# Altium schematic symbol library ARCOM_Chips.SchLib: 90 symbols (part 2 of 2)
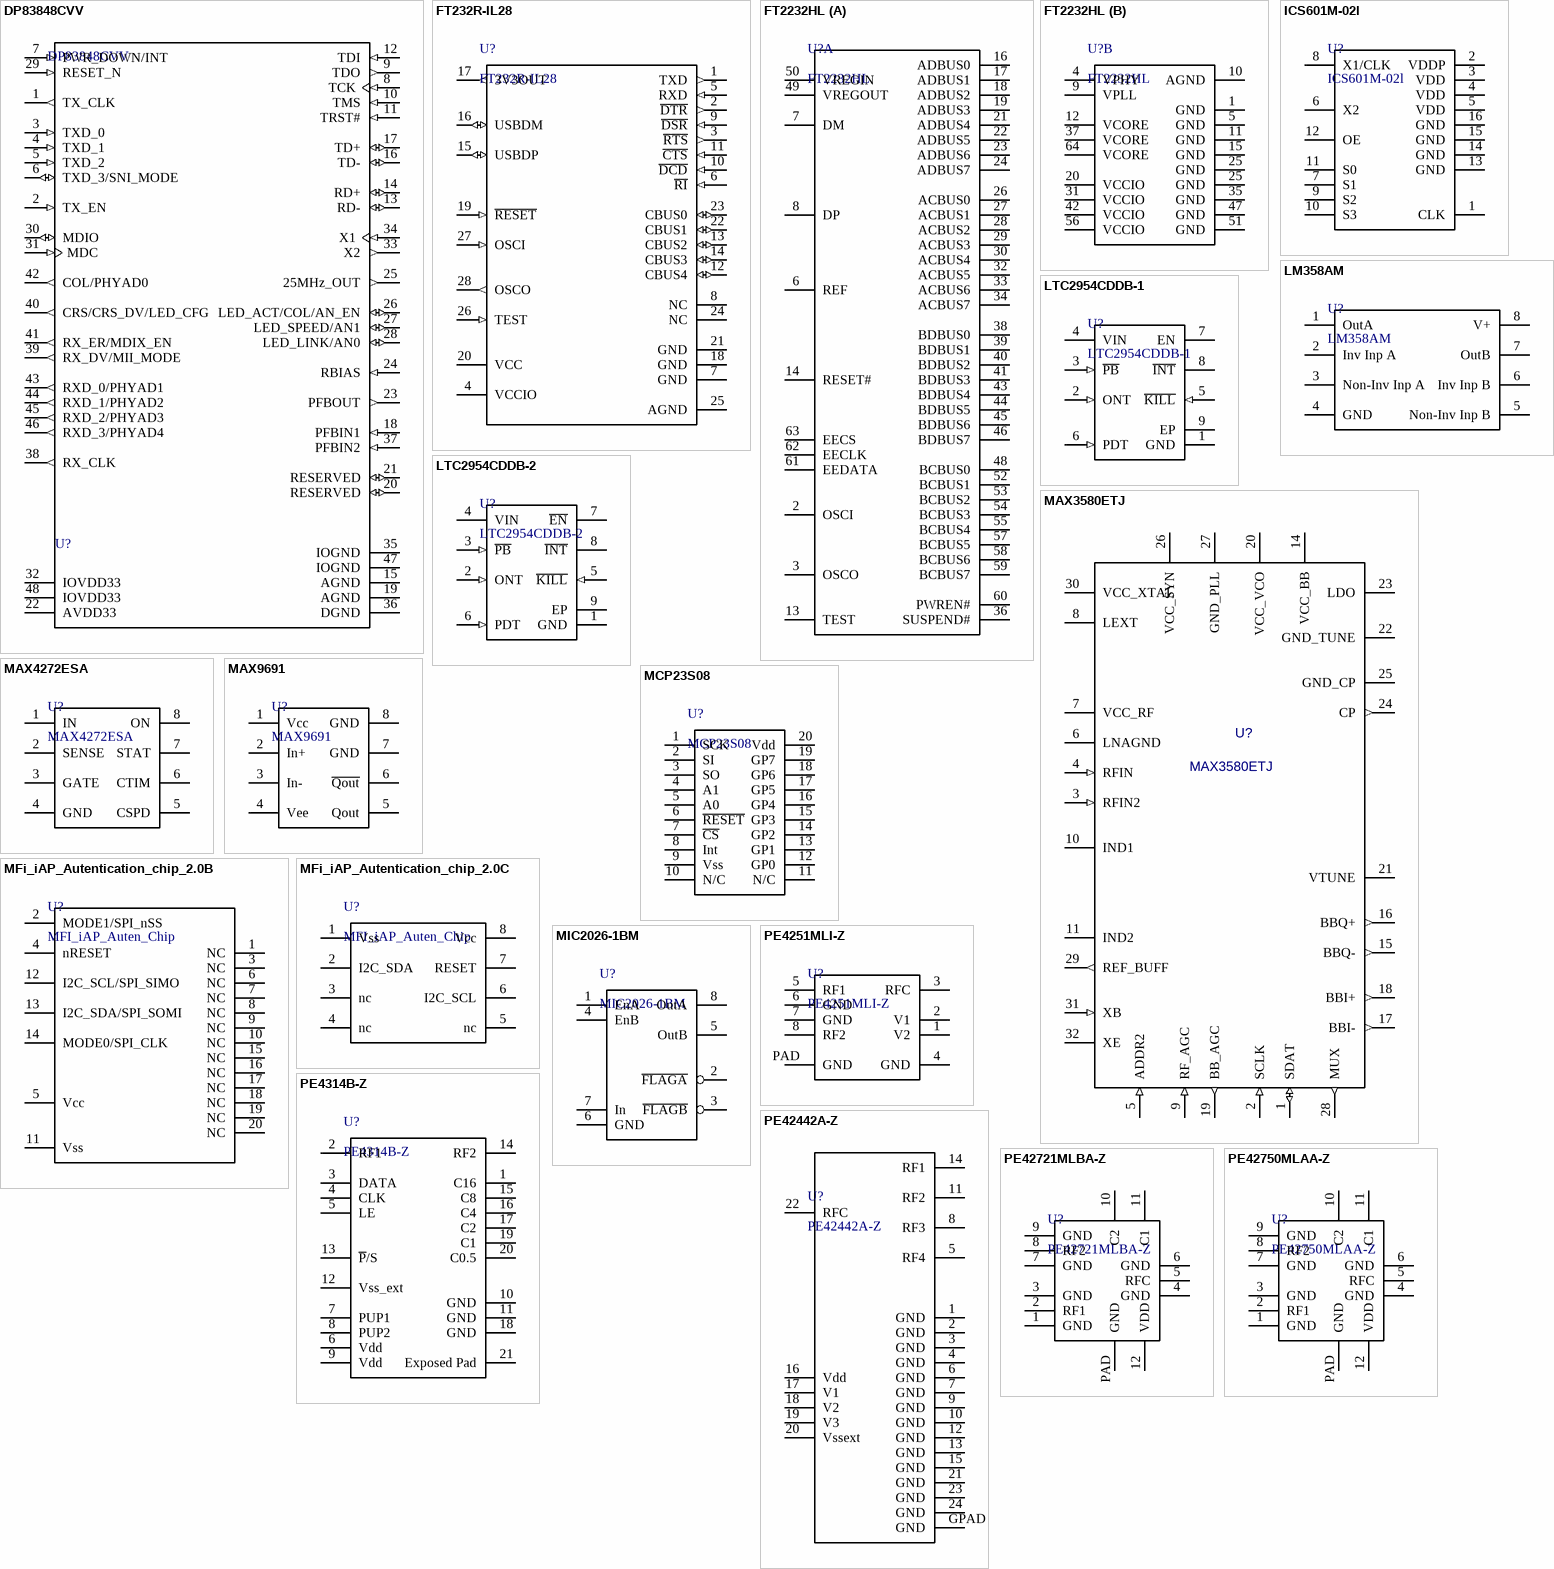
[diagram p9: symbols DP83848CVV to PE42750MLAA-Z]

## MAX3580ETJ
designator U?
Direct-conversion TV Tuner; Manufacturer: Maxim Integrated Products; Manufacturer P/N: MAX3580ETJ; ComponentLink1Description: Manufacturer; ComponentLink1URL: https://www.maximintegrated.com/en.html; ComponentLink2Description: Datasheet; ComponentLink2URL: https://datasheets.maximintegrated.com/en/ds/MAX3580.pdf; Part: MAX3580ETJ; Family: Chip obsolete
pins: 1 SDAT (io), 2 SCLK (in), 3 RFIN2 (in), 4 RFIN (in), 5 ADDR2 (in), 6 LNAGND (power), 7 VCC_RF (power), 8 LEXT (power), 9 RF_AGC (in), 10 IND1, 11 IND2, 12 hidden, 13 hidden, 14 VCC_BB (power), 15 BBQ- (out), 16 BBQ+ (out), 17 BBI- (out), 18 BBI+ (out), 19 BB_AGC (out), 20 VCC_VCO (power), 21 VTUNE (power), 22 GND_TUNE (power), 23 LDO, 24 CP (out), 25 GND_CP (power), 26 VCC_SYN (power), 27 GND_PLL (power), 28 MUX (out), 29 REF_BUFF (out), 30 VCC_XTAL (power), 31 XB (in), 32 XE, 33 GND (power) hidden to GND

## MAX4272ESA
designator U?
Current-Limiting Controllers; Manufacturer: Maxim integrated; ComponentLink2URL: http://www.mouser.com/ds/2/256/MAX4271-MAX4273-103837.pdf; ComponentLink2Description: Datasheet; ComponentLink1Description: Manufacturer; ComponentLink1URL: http://www.maximintegrated.com/en.html; Part: MAX4272ESA; Manufacturer P/N: MAX4272ESA; Family: Chip
footprint SOIC_8_1.27_L (SOIC, 8-Leads, Body 4.89x3.9mm, Pitch 1.27mm, IPC High Density)
footprint SOIC_8_1.27_M (SOIC, 8-Leads, Body 4.89x3.9mm, Pitch 1.27mm, IPC Low Density)
footprint SOIC_8_1.27_N (SOIC, 8-Leads, Body 4.89x3.9mm, Pitch 1.27mm, IPC Medium Density)
pins: 1 IN, 2 SENSE, 3 GATE, 4 GND, 5 CSPD, 6 CTIM, 7 STAT, 8 ON

## MAX9691
designator U?
Manufacturer: Maxim; ComponentLink1Description: Manufacturer; ComponentLink1URL: *; ComponentLink2Description: Datasheet; ComponentLink2URL: *; Manufacturer P/N: *; Part: MAX9691; Family: Chip
pins: 1 Vcc, 2 In+, 3 In-, 4 Vee, 5 Qout, 6 ~{Qout}, 7 GND, 8 GND

## MCP23S08
designator U?
pins: 1 SCK, 2 SI, 3 SO, 4 A1, 5 A0, 6 ~{RESET}, 7 ~{CS}, 8 Int, 9 Vss, 10 N/C, 11 N/C, 12 GP0, 13 GP1, 14 GP2, 15 GP3, 16 GP4, 17 GP5, 18 GP6, 19 GP7, 20 Vdd

## MFi_iAP_Autentication_chip_2.0B
designator U?, comment MFI_iAP_Auten_Chip
QFN-20 iAP Autentication Chip 2.0B; Family: Chip
footprint QFN20(4x4)_L (QFN, 20-Leads, Body 4x4mm, Pitch 0.5mm, Thermal Pad 2.7x2.7mm, IPC High Density)
footprint QFN20(4x4)_N (QFN, 20-Leads, Body 4x4mm, Pitch 0.5mm, Thermal Pad 2.7x2.7mm, IPC Medium Density)
footprint QFN20(4x4)_N (QFN, 20-Leads, Body 4x4mm, Pitch 0.5mm, Thermal Pad 2.7x2.7mm, IPC Medium Density)
pins: 1 NC, 2 MODE1/SPI_nSS, 3 NC, 4 nRESET, 5 Vcc, 6 NC, 7 NC, 8 NC, 9 NC, 10 NC, 11 Vss, 12 I2C_SCL/SPI_SIMO, 13 I2C_SDA/SPI_SOMI, 14 MODE0/SPI_CLK, 15 NC, 16 NC, 17 NC, 18 NC, 19 NC, 20 NC

## MFi_iAP_Autentication_chip_2.0C
designator U?, comment MFI_iAP_Auten_Chip
iAP Autentication Chip 2.0C; Family: Chip
footprint PG-USON-8-1
pins: 1 Vss, 2 I2C_SDA, 3 nc, 4 nc, 5 nc, 6 I2C_SCL, 7 RESET, 8 Vcc

## MIC2026-1BM
designator U?
Dual-Channel Power Distribution Switch; Manufacturer: Micrel; ComponentLink1Description: Manufacturer; ComponentLink1URL: *; ComponentLink2Description: Datasheet; ComponentLink2URL: http://ww1.microchip.com/downloads/en/DeviceDoc/mic2026.pdf; family: chip; Manufacturer P/N: MIC2026-1BM; part: MIC2026-1BM
footprint SOIC_8_1.27_L (SOIC, 8-Leads, Body 4.89x3.9mm, Pitch 1.27mm, IPC High Density)
pins: 1 EnA, 2 ~{FLAGA}, 3 ~{FLAGB}, 4 EnB, 5 OutB, 6 GND, 7 In, 8 OutA

## PE4251MLI-Z
designator U?
SPDT RF Switch; Manufacturer: PESemi; ComponentLink1Description: *; ComponentLink1URL: *; ComponentLink2Description: *; ComponentLink2URL: *; Family: *; Manufacturer P/N: PE4251MLI-Z; Part: *
footprint PE4251MLI-Z
pins: 1 V2, 2 V1, 3 RFC, 4 GND, 5 RF1, 6 GND, 7 GND, 8 RF2, PAD GND

## PE4314B-Z
designator U?
UltraCMOS RF Digital Step Attenuator, 1MHz-2.5GHz; Manufacturer: Peregrine Semiconductor; ComponentLink1Description: Manufacturer; ComponentLink1URL: https://psemi.com; ComponentLink2Description: Datasheet; ComponentLink2URL: https://psemi.com/pdf/datasheets/pe4314ds.pdf; Family: Chip; Manufacturer P/N: PE4314B-Z; Part: PE4314B-Z
footprint PE4314 (QFN, 20-Leads, Body 4,00x4,00mm, Pitch 0,50mm, Thermal Pad 2,20x2,20mm, IPC Medium Density)
pins: 1 C16, 2 RF1, 3 DATA, 4 CLK, 5 LE, 6 Vdd, 7 PUP1, 8 PUP2, 9 Vdd, 10 GND, 11 GND, 12 Vss_ext, 13 ~{P}/S, 14 RF2, 15 C8, 16 C4, 17 C2, 18 GND, 19 C1, 20 C0.5, 21 Exposed Pad

## PE42442A-Z
designator U?
UltraCMOS SP4T RF Switch 30MHz-6GHz; Manufacturer: Peregrine Semiconductor; ComponentLink1Description: Manufacturer; ComponentLink1URL: https://www.psemi.com; ComponentLink2Description: Datasheet; ComponentLink2URL: https://www.psemi.com/pdf/datasheets/pe42442ds.pdf; Manufacturer P/N: PE42442A-Z; Family: Chips; Part: PE42442A-Z
footprint QFN24(4x4mm)0.5pitch
pins: 1 GND, 2 GND, 3 GND, 4 GND, 5 RF4, 6 GND, 7 GND, 8 RF3, 9 GND, 10 GND, 11 RF2, 12 GND, 13 GND, 14 RF1, 15 GND, 16 Vdd, 17 V1, 18 V2, 19 V3, 20 Vssext, 21 GND, 22 RFC, 23 GND, 24 GND, GPAD GND

## PE42721MLBA-Z
designator U?
SPDT RF Switch; ComponentLink1Description: *; ComponentLink1URL: *; ComponentLink2Description: *; ComponentLink2URL: *; Family: *; Manufacturer: *; Manufacturer P/N: PE42721MLBA-Z; Part: *
footprint PE42721
pins: 1 GND, 2 RF1, 3 GND, 4 GND, 5 RFC, 6 GND, 7 GND, 8 RF2, 9 GND, 10 C2, 11 C1, 12 VDD, PAD GND

## PE42750MLAA-Z
designator U?
SPDT RF Switch; ComponentLink1Description: *; ComponentLink1URL: *; ComponentLink2Description: *; ComponentLink2URL: *; Family: *; Manufacturer: *; Manufacturer P/N: PE42750MLAA-Z; Part: *
footprint PE42721
pins: 1 GND, 2 RF1, 3 GND, 4 GND, 5 RFC, 6 GND, 7 GND, 8 RF2, 9 GND, 10 C2, 11 C1, 12 VDD, PAD GND

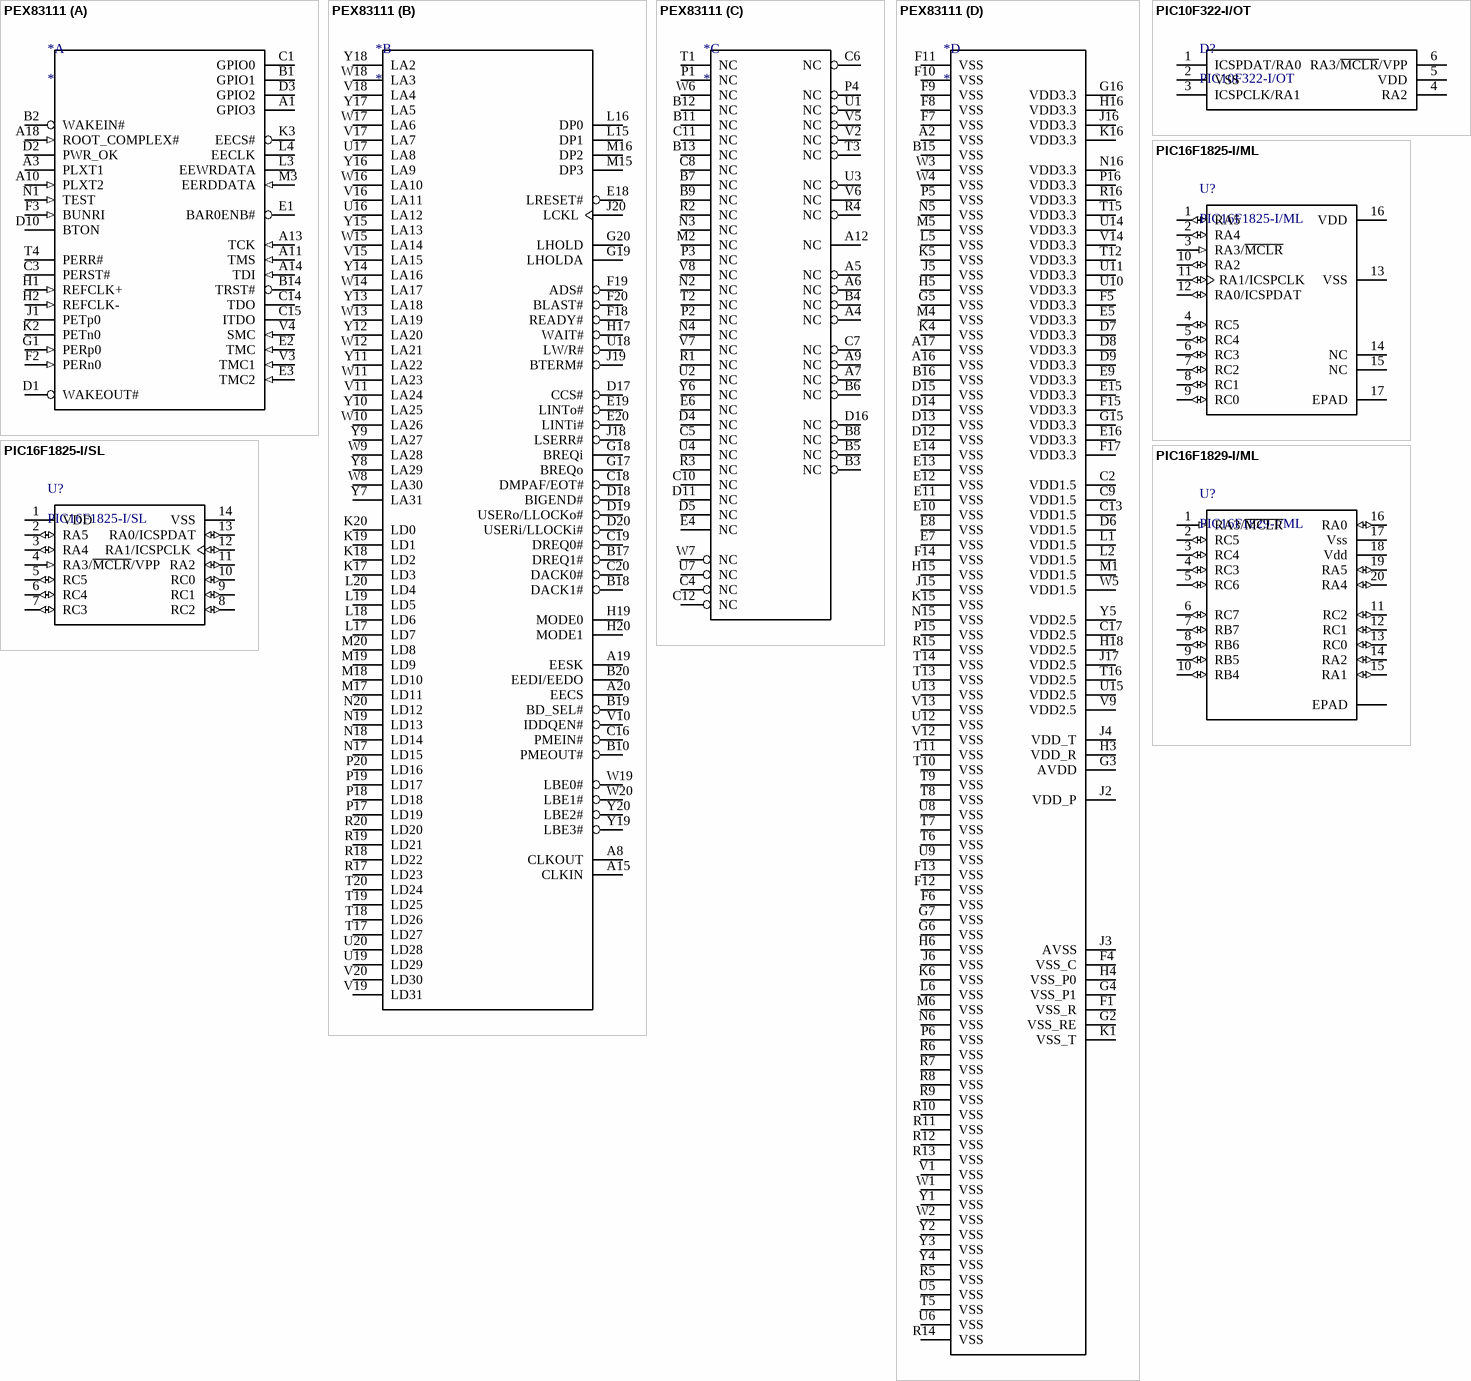
[diagram p4: symbols PEX83111 to PIC16F1829-I/ML]

## PEX83111
designator *
footprint PBGA-337
part A pins: A1 GPIO3, A3 PLXT1, A10 PLXT2 (in), A11 TMS (in), A13 TCK (in), A14 TDI (in), A18 ROOT_COMPLEX# (in), B1 GPIO1, B2 WAKEIN#, B14 TRST#, C1 GPIO0, C3 PERST#, C14 TDO, C15 ITDO, D1 WAKEOUT#, D2 PWR_OK, D3 GPIO2, D10 BTON, E1 BAR0ENB#, E2 TMC (in), E3 TMC2 (in), F2 PERn0 (in), F3 BUNRI (in), G1 PERp0 (in), H1 REFCLK+ (in), H2 REFCLK- (in), J1 PETp0, K2 PETn0, K3 EECS#, L3 EEWRDATA, L4 EECLK, M3 EERDDATA (in), N1 TEST (in), T4 PERR#, V3 TMC1 (in), V4 SMC (in)
part B pins: A8 CLKOUT, A15 CLKIN, A19 EESK, A20 EECS, B10 PMEOUT#, B17 DREQ1#, B18 DACK1#, B19 BD_SEL#, B20 EEDI/EEDO, C16 PMEIN#, C18 DMPAF/EOT#, C19 DREQ0#, C20 DACK0#, D17 CCS#, D18 BIGEND#, D19 USERo/LLOCKo#, D20 USERi/LLOCKi#, E18 LRESET#, E19 LINTo#, E20 LINTi#, F18 READY#, F19 ADS#, F20 BLAST#, G17 BREQo, G18 BREQi, G19 LHOLDA, G20 LHOLD, H17 WAIT#, H19 MODE0, H20 MODE1, J18 LSERR#, J19 BTERM#, J20 LCKL, K17 LD3, K18 LD2, K19 LD1, K20 LD0, L15 DP1, L16 DP0, L17 LD7, L18 LD6, L19 LD5, L20 LD4, M15 DP3, M16 DP2, M17 LD11, M18 LD10, M19 LD9, M20 LD8, N17 LD15, N18 LD14, N19 LD13, N20 LD12, P17 LD19, P18 LD18, P19 LD17, P20 LD16, R17 LD23, R18 LD22, R19 LD21, R20 LD20, T17 LD27, T18 LD26, T19 LD25, T20 LD24, U16 LA12, U17 LA8, U18 LW/R#, U19 LD29, U20 LD28, V10 IDDQEN#, V11 LA24, V15 LA15, V16 LA11, V17 LA7, V18 LA4, V19 LD31, V20 LD30, W8 LA30, W9 LA28, W10 LA26, W11 LA23, W12 LA21, W13 LA19, W14 LA17, W15 LA14, W16 LA10, W17 LA6, W18 LA3, W19 LBE0#, W20 LBE1#, Y7 LA31, Y8 LA29, Y9 LA27, Y10 LA25, Y11 LA22, Y12 LA20, Y13 LA18, Y14 LA16, Y15 LA13, Y16 LA9, Y17 LA5, Y18 LA2, Y19 LBE3#, Y20 LBE2#
part C pins: A4 NC, A5 NC, A6 NC, A7 NC, A9 NC, A12 NC, B3 NC, B4 NC, B5 NC, B6 NC, B7 NC, B8 NC, B9 NC, B11 NC, B12 NC, B13 NC, C4 NC, C5 NC, C6 NC, C7 NC, C8 NC, C10 NC, C11 NC, C12 NC, D4 NC, D5 NC, D11 NC, D16 NC, E4 NC, E6 NC, M2 NC, N2 NC, N3 NC, N4 NC, P1 NC, P2 NC, P3 NC, P4 NC, R1 NC, R2 NC, R3 NC, R4 NC, T1 NC, T2 NC, T3 NC, U1 NC, U2 NC, U3 NC, U4 NC, U7 NC, V2 NC, V5 NC, V6 NC, V7 NC, V8 NC, W6 NC, W7 NC, Y6 NC
part D pins: A2 VSS, A16 VSS, A17 VSS, B15 VSS, B16 VSS, C2 VDD1.5, C9 VDD1.5, C13 VDD1.5, C17 VDD2.5, D6 VDD1.5, D7 VDD3.3, D8 VDD3.3, D9 VDD3.3, D12 VSS, D13 VSS, D14 VSS, D15 VSS, E5 VDD3.3, E7 VSS, E8 VSS, E9 VDD3.3, E10 VSS, E11 VSS, E12 VSS, E13 VSS, E14 VSS, E15 VDD3.3, E16 VDD3.3, F1 VSS_R, F4 VSS_C, F5 VDD3.3, F6 VSS, F7 VSS, F8 VSS, F9 VSS, F10 VSS, F11 VSS, F12 VSS, F13 VSS, F14 VSS, F15 VDD3.3, F17 VDD3.3, G2 VSS_RE, G3 AVDD, G4 VSS_P1, G5 VSS, G6 VSS, G7 VSS, G15 VDD3.3, G16 VDD3.3, H3 VDD_R, H4 VSS_P0, H5 VSS, H6 VSS, H15 VSS, H16 VDD3.3, H18 VDD2.5, J2 VDD_P, J3 AVSS, J4 VDD_T, J5 VSS, J6 VSS, J15 VSS, J16 VDD3.3, J17 VDD2.5, K1 VSS_T, K4 VSS, K5 VSS, K6 VSS, K15 VSS, K16 VDD3.3, L1 VDD1.5, L2 VDD1.5, L5 VSS, L6 VSS, M1 VDD1.5, M4 VSS, M5 VSS, M6 VSS, N5 VSS, N6 VSS, N15 VSS, N16 VDD3.3, P5 VSS, P6 VSS, P15 VSS, P16 VDD3.3, R5 VSS, R6 VSS, R7 VSS, R8 VSS, R9 VSS, R10 VSS, R11 VSS, R12 VSS, R13 VSS, R14 VSS, R15 VSS, R16 VDD3.3, T5 VSS, T6 VSS, T7 VSS, T8 VSS, T9 VSS, T10 VSS, T11 VSS, T12 VDD3.3, T13 VSS, T14 VSS, T15 VDD3.3, T16 VDD2.5, U5 VSS, U6 VSS, U8 VSS, U9 VSS, U10 VDD3.3, U11 VDD3.3, U12 VSS, U13 VSS, U14 VDD3.3, U15 VDD2.5, V1 VSS, V9 VDD2.5, V12 VSS, V13 VSS, V14 VDD3.3, W1 VSS, W2 VSS, W3 VSS, W4 VSS, W5 VDD1.5, Y1 VSS, Y2 VSS, Y3 VSS, Y4 VSS, Y5 VDD2.5

## PIC10F322-I/OT
designator D?
6-pin Flash-Based, 8-bit Microcontroller
footprint SOT-23(PIC)
pins: 1 ICSPDAT/RA0, 2 VSS, 3 ICSPCLK/RA1, 4 RA2, 5 VDD (power) "Positive supply", 6 RA3/~{MCLR}/VPP

## PIC16F1825-I/ML
designator U?
Flash Microcontroller with XLP Technology, 32MHz, 11 I/O, -40 to 85 degC, 14-pin SOIC(SL14), Tube; Manufacturer: Microchip; ComponentLink1Description: Manufacturer; ComponentLink1URL: http://www.microchip.com/; ComponentLink2Description: Datasheet; ComponentLink2URL: http://ww1.microchip.com/downloads/en/DeviceDoc/40001440E.pdf; Manufacturer P/N: PIC16F1825-I/ML; Part: PIC16F1825-I/ML; Family: Chip
footprint ADI-CP-16-10_M (QFN, 16-Leads, Body 4x4mm, Pitch 0.65mm, Thermal Pad 2.35x2.35mm, IPC Low Density)
pins: 1 RA5 (io), 2 RA4 (io), 3 RA3/~{MCLR} (in), 4 RC5 (io), 5 RC4 (io), 6 RC3 (io), 7 RC2 (io), 8 RC1 (io), 9 RC0 (io), 10 RA2 (io), 11 RA1/ICSPCLK (io), 12 RA0/ICSPDAT (io), 13 VSS (power) "Ground reference.", 14 NC (power) "Positive supply", 15 NC (power) "Positive supply", 16 VDD (power) "Positive supply", 17 EPAD (power) "Positive supply"

## PIC16F1825-I/SL
designator U?
Flash Microcontroller with XLP Technology, 32MHz, 11 I/O, -40 to 85 degC, 14-pin SOIC(SL14), Tube; Manufacturer: Microchip; ComponentLink1Description: Manufacturer; ComponentLink1URL: http://www.microchip.com/; ComponentLink2Description: Datasheet; ComponentLink2URL: http://ww1.microchip.com/downloads/en/DeviceDoc/40001440E.pdf; Manufacturer P/N: PIC16F1825-I/SL; Part: PIC16F1825-I/SL; Family: Chip
footprint SOIC_14_1.27_H (SOIC, 14-Leads, Body 8.65x3.9mm, Pitch 1.27mm, IPC High Density)
footprint SOIC_14_1.27_L (SOIC, 14-Leads, Body 8.65x3.9mm, Pitch 1.27mm, IPC Low Density)
footprint SOIC_14_1.27_M (SOIC, 14-Leads, Body 8.65x3.9mm, Pitch 1.27mm, IPC Medium Density)
pins: 1 VDD (power) "Positive supply", 2 RA5 (io), 3 RA4 (io), 4 RA3/~{MCLR}/VPP (in), 5 RC5 (io), 6 RC4 (io), 7 RC3 (io), 8 RC2 (io), 9 RC1 (io), 10 RC0 (io), 11 RA2 (io), 12 RA1/ICSPCLK (io), 13 RA0/ICSPDAT (io), 14 VSS (power) "Ground reference."

## PIC16F1829-I/ML
designator U?
Flash Microcontroller with XLP Technology, 32MHz, 11 I/O, -40 to 85 degC, 14-pin SOIC(SL14), Tube; Manufacturer: Microchip; ComponentLink1Description: Manufacturer; ComponentLink1URL: http://www.microchip.com/; ComponentLink2Description: Datasheet; ComponentLink2URL: http://ww1.microchip.com/downloads/en/DeviceDoc/40001440E.pdf; Manufacturer P/N: PIC16F1829-I/ML; Part: PIC16F1829-I/ML; Family: Chip
footprint QFN20(4x4)_L (QFN, 20-Leads, Body 4x4mm, Pitch 0.5mm, Thermal Pad 2.7x2.7mm, IPC High Density)
pins: 1 RA3/~{MCLR} (in), 2 RC5 (io), 3 RC4 (io), 4 RC3 (io), 5 RC6 (io), 6 RC7 (io), 7 RB7 (io), 8 RB6 (io), 9 RB5 (io), 10 RB4 (io), 11 RC2 (io), 12 RC1 (io), 13 RC0 (io) "Ground reference.", 14 RA2 (io) "Positive supply", 15 RA1 (io) "Positive supply", 16 RA0 (io) "Positive supply", 17 Vss (power) "Positive supply", 18 Vdd (power) "Positive supply", 19 RA5 (io) "Positive supply", 20 RA4 (io) "Positive supply", 21 EPAD (power) "Positive supply"

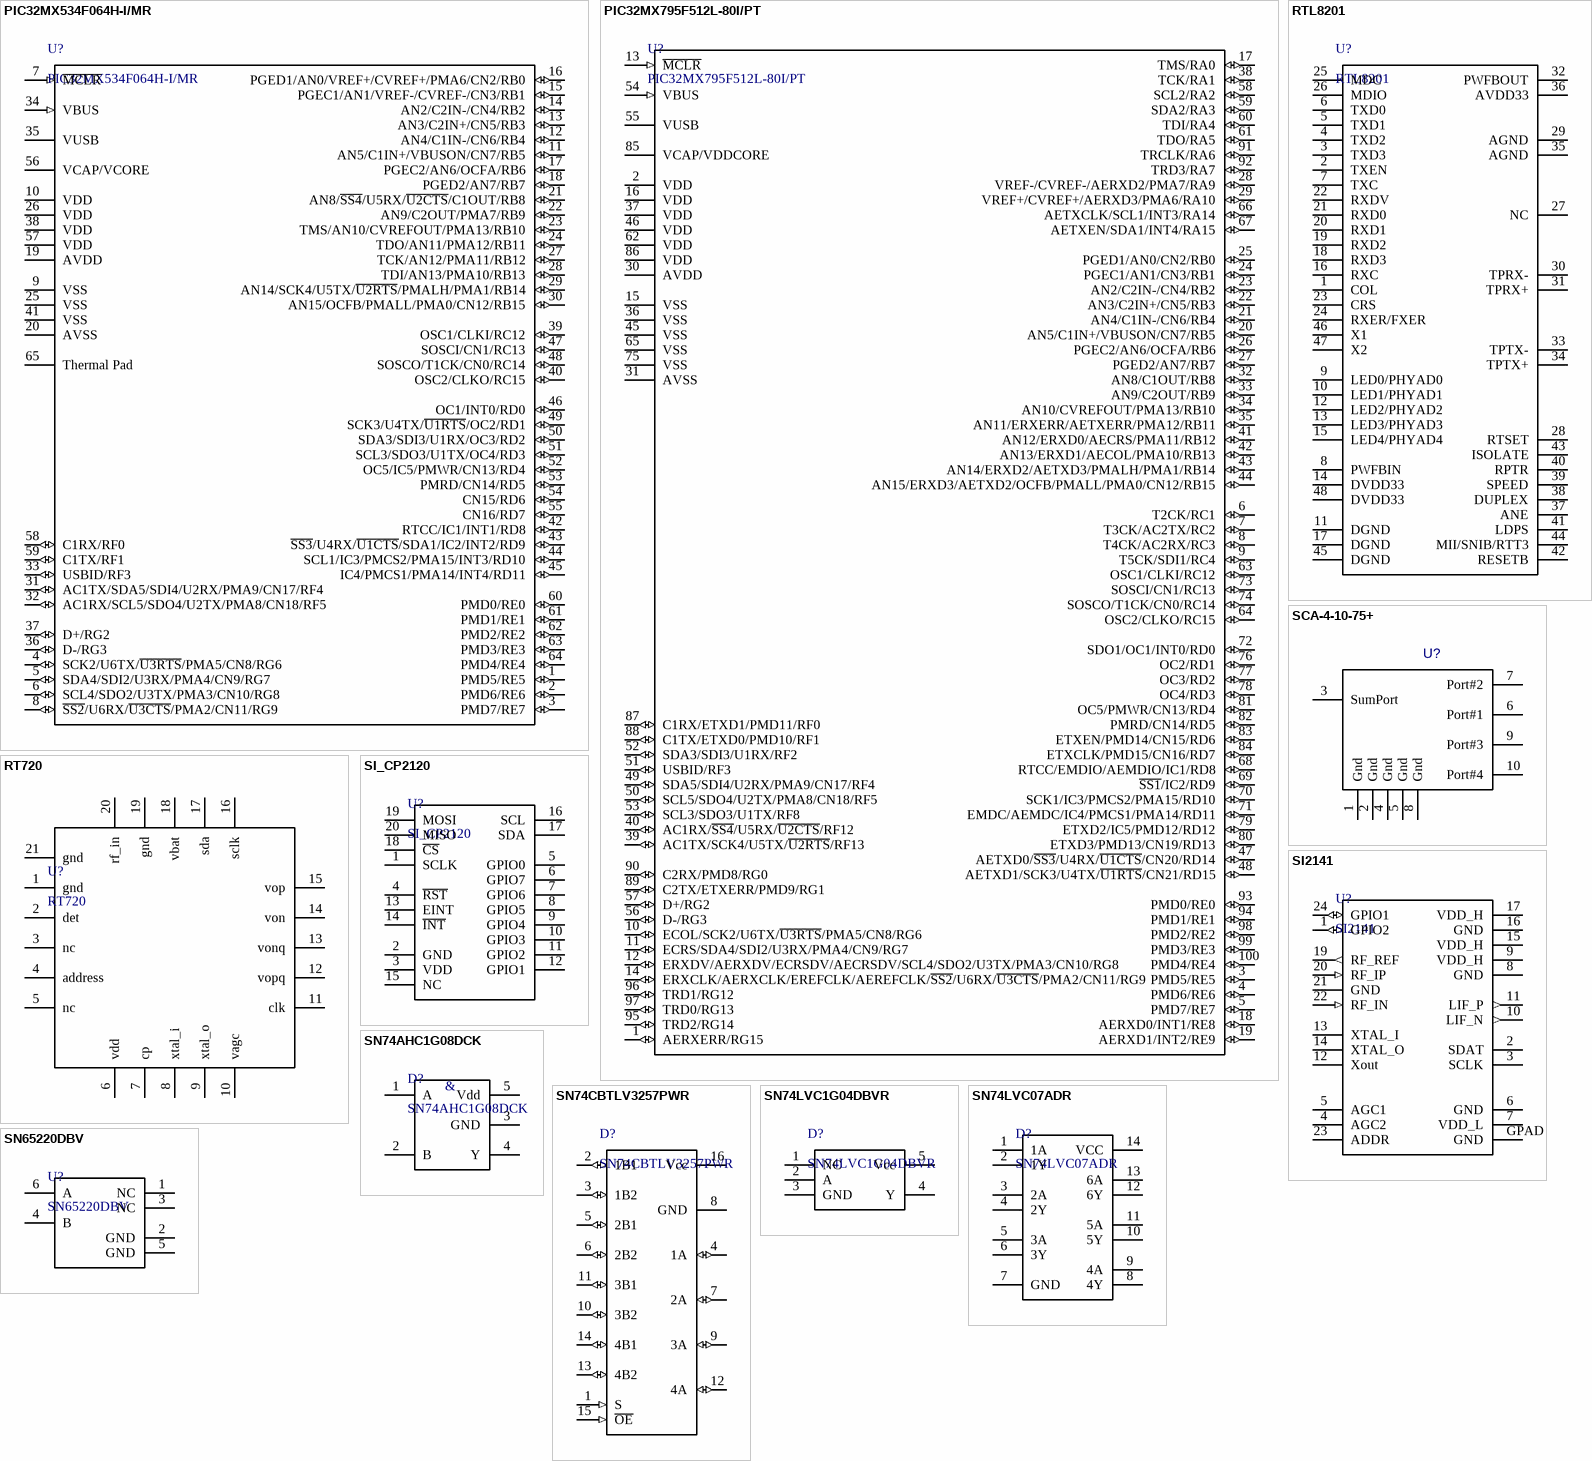
[diagram p5: symbols PIC32MX534F064H-I/MR to SN65220DBV]

## PIC32MX534F064H-I/MR
designator U?
32-bit Microcontrollers (up to 512 KB Flash and 128 KB SRAM)  with Graphics Interface, USB, CAN, and Ethernet; Manufacturer: Microchip; ComponentLink1Description: Manufacturer; ComponentLink1URL: *; ComponentLink2Description: Datasheet; ComponentLink2URL: *; Family: Chip; Manufacturer P/N: PIC32MX534F064H-I/MR; Part: PIC32MX534F064H-I/MR
footprint QFN-MR64_N (QFN, 64-Leads, Body 9x9mm, Pitch 0.5mm, Thermal Pad 7.5x7.5mm, IPC Medium Density)
pins: 1 PMD5/RE5 (io), 2 PMD6/RE6 (io), 3 PMD7/RE7 (io), 4 SCK2/U6TX/~{U3RTS}/PMA5/CN8/RG6 (io), 5 SDA4/SDI2/U3RX/PMA4/CN9/RG7 (io), 6 SCL4/SDO2/U3TX/PMA3/CN10/RG8 (io), 7 ~{MCLR} (in), 8 ~{SS2}/U6RX/~{U3CTS}/PMA2/CN11/RG9 (io), 9 VSS (power), 10 VDD (power), 11 AN5/C1IN+/VBUSON/CN7/RB5 (io), 12 AN4/C1IN-/CN6/RB4 (io), 13 AN3/C2IN+/CN5/RB3 (io), 14 AN2/C2IN-/CN4/RB2 (io), 15 PGEC1/AN1/VREF-/CVREF-/CN3/RB1 (io), 16 PGED1/AN0/VREF+/CVREF+/PMA6/CN2/RB0 (io), 17 PGEC2/AN6/OCFA/RB6 (io), 18 PGED2/AN7/RB7 (io), 19 AVDD (power), 20 AVSS (power), 21 AN8/~{SS4}/U5RX/~{U2CTS}/C1OUT/RB8 (io), 22 AN9/C2OUT/PMA7/RB9 (io), 23 TMS/AN10/CVREFOUT/PMA13/RB10 (io), 24 TDO/AN11/PMA12/RB11 (io), 25 VSS (power), 26 VDD (power), 27 TCK/AN12/PMA11/RB12 (io), 28 TDI/AN13/PMA10/RB13 (io), 29 AN14/SCK4/U5TX/~{U2RTS}/PMALH/PMA1/RB14 (io), 30 AN15/OCFB/PMALL/PMA0/CN12/RB15 (io), 31 AC1TX/SDA5/SDI4/U2RX/PMA9/CN17/RF4 (io), 32 AC1RX/SCL5/SDO4/U2TX/PMA8/CN18/RF5 (io), 33 USBID/RF3 (io), 34 VBUS (in), 35 VUSB (power), 36 D-/RG3 (io), 37 D+/RG2 (io), 38 VDD (power), 39 OSC1/CLKI/RC12 (io), 40 OSC2/CLKO/RC15 (io), 41 VSS (power), 42 RTCC/IC1/INT1/RD8 (io), 43 ~{SS3}/U4RX/~{U1CTS}/SDA1/IC2/INT2/RD9 (io), 44 SCL1/IC3/PMCS2/PMA15/INT3/RD10 (io), 45 IC4/PMCS1/PMA14/INT4/RD11 (io), 46 OC1/INT0/RD0 (io), 47 SOSCI/CN1/RC13 (io), 48 SOSCO/T1CK/CN0/RC14 (io), 49 SCK3/U4TX/~{U1RTS}/OC2/RD1 (io), 50 SDA3/SDI3/U1RX/OC3/RD2 (io), 51 SCL3/SDO3/U1TX/OC4/RD3 (io), 52 OC5/IC5/PMWR/CN13/RD4 (io), 53 PMRD/CN14/RD5 (io), 54 CN15/RD6 (io), 55 CN16/RD7 (io), 56 VCAP/VCORE (power), 57 VDD (power), 58 C1RX/RF0 (io), 59 C1TX/RF1 (io), 60 PMD0/RE0 (io), 61 PMD1/RE1 (io), 62 PMD2/RE2 (io), 63 PMD3/RE3 (io), 64 PMD4/RE4 (io), 65 Thermal Pad

## PIC32MX795F512L-80I/PT
designator U?
High Performance 80 MHz MIPS-Based 32-Bit Flash Microcontroller with USB, CAN and Ethernet, 512KB Program Memory, 100-pin TQFP; Manufacturer: Microchip; ComponentLink1Description: Manufacturer; ComponentLink1URL: http://www.microchip.com/; ComponentLink2Description: Datasheet; ComponentLink2URL: http://ww1.microchip.com/downloads/en/DeviceDoc/61156G.pdf; Manufacturer P/N: PIC32MX795F512L-80I/PT; Part: PIC32MX795F512L-80I/PT; Family: Chip
footprint TQFP-PT100_L (Thin QFP, 100-Leads, Body 12x12mm, Pitch 0.4mm, IPC High Density)
footprint TQFP-PT100_M (Thin QFP, 100-Leads, Body 12x12mm, Pitch 0.4mm, IPC Low Density)
footprint TQFP-PT100_N (Thin QFP, 100-Leads, Body 12x12mm, Pitch 0.4mm, IPC Medium Density)
pins: 1 AERXERR/RG15 (io), 2 VDD (power), 3 PMD5/RE5 (io), 4 PMD6/RE6 (io), 5 PMD7/RE7 (io), 6 T2CK/RC1 (io), 7 T3CK/AC2TX/RC2 (io), 8 T4CK/AC2RX/RC3 (io), 9 T5CK/SDI1/RC4 (io), 10 ECOL/SCK2/U6TX/~{U3RTS}/PMA5/CN8/RG6 (io), 11 ECRS/SDA4/SDI2/U3RX/PMA4/CN9/RG7 (io), 12 ERXDV/AERXDV/ECRSDV/AECRSDV/SCL4/SDO2/U3TX/PMA3/CN10/RG8 (io), 13 ~{MCLR} (in), 14 ERXCLK/AERXCLK/EREFCLK/AEREFCLK/~{SS2}/U6RX/~{U3CTS}/PMA2/CN11/RG9 (io), 15 VSS (power), 16 VDD (power), 17 TMS/RA0 (io), 18 AERXD0/INT1/RE8 (io), 19 AERXD1/INT2/RE9 (io), 20 AN5/C1IN+/VBUSON/CN7/RB5 (io), 21 AN4/C1IN-/CN6/RB4 (io), 22 AN3/C2IN+/CN5/RB3 (io), 23 AN2/C2IN-/CN4/RB2 (io), 24 PGEC1/AN1/CN3/RB1 (io), 25 PGED1/AN0/CN2/RB0 (io), 26 PGEC2/AN6/OCFA/RB6 (io), 27 PGED2/AN7/RB7 (io), 28 VREF-/CVREF-/AERXD2/PMA7/RA9 (io), 29 VREF+/CVREF+/AERXD3/PMA6/RA10 (io), 30 AVDD (power), 31 AVSS (power), 32 AN8/C1OUT/RB8 (io), 33 AN9/C2OUT/RB9 (io), 34 AN10/CVREFOUT/PMA13/RB10 (io), 35 AN11/ERXERR/AETXERR/PMA12/RB11 (io), 36 VSS (power), 37 VDD (power), 38 TCK/RA1 (io), 39 AC1TX/SCK4/U5TX/~{U2RTS}/RF13 (io), 40 AC1RX/~{SS4}/U5RX/~{U2CTS}/RF12 (io), 41 AN12/ERXD0/AECRS/PMA11/RB12 (io), 42 AN13/ERXD1/AECOL/PMA10/RB13 (io), 43 AN14/ERXD2/AETXD3/PMALH/PMA1/RB14 (io), 44 AN15/ERXD3/AETXD2/OCFB/PMALL/PMA0/CN12/RB15 (io), 45 VSS (power), 46 VDD (power), 47 AETXD0/~{SS3}/U4RX/~{U1CTS}/CN20/RD14 (io), 48 AETXD1/SCK3/U4TX/~{U1RTS}/CN21/RD15 (io), 49 SDA5/SDI4/U2RX/PMA9/CN17/RF4 (io), 50 SCL5/SDO4/U2TX/PMA8/CN18/RF5 (io), 51 USBID/RF3 (io), 52 SDA3/SDI3/U1RX/RF2 (io), 53 SCL3/SDO3/U1TX/RF8 (io), 54 VBUS (in), 55 VUSB (power), 56 D-/RG3 (io), 57 D+/RG2 (io), 58 SCL2/RA2 (io), 59 SDA2/RA3 (io), 60 TDI/RA4 (io), 61 TDO/RA5 (io), 62 VDD (power), 63 OSC1/CLKI/RC12 (io), 64 OSC2/CLKO/RC15 (io), 65 VSS (power), 66 AETXCLK/SCL1/INT3/RA14 (io), 67 AETXEN/SDA1/INT4/RA15 (io), 68 RTCC/EMDIO/AEMDIO/IC1/RD8 (io), 69 ~{SS1}/IC2/RD9 (io), 70 SCK1/IC3/PMCS2/PMA15/RD10 (io), 71 EMDC/AEMDC/IC4/PMCS1/PMA14/RD11 (io), 72 SDO1/OC1/INT0/RD0 (io), 73 SOSCI/CN1/RC13 (io), 74 SOSCO/T1CK/CN0/RC14 (io), 75 VSS (power), 76 OC2/RD1 (io), 77 OC3/RD2 (io), 78 OC4/RD3 (io), 79 ETXD2/IC5/PMD12/RD12 (io), 80 ETXD3/PMD13/CN19/RD13 (io), 81 OC5/PMWR/CN13/RD4 (io), 82 PMRD/CN14/RD5 (io), 83 ETXEN/PMD14/CN15/RD6 (io), 84 ETXCLK/PMD15/CN16/RD7 (io), 85 VCAP/VDDCORE (power), 86 VDD (power), 87 C1RX/ETXD1/PMD11/RF0 (io), 88 C1TX/ETXD0/PMD10/RF1 (io), 89 C2TX/ETXERR/PMD9/RG1 (io), 90 C2RX/PMD8/RG0 (io), 91 TRCLK/RA6 (io), 92 TRD3/RA7 (io), 93 PMD0/RE0 (io), 94 PMD1/RE1 (io), 95 TRD2/RG14 (io), 96 TRD1/RG12 (io), 97 TRD0/RG13 (io), 98 PMD2/RE2 (io), 99 PMD3/RE3 (io), 100 PMD4/RE4 (io)

## RT720
designator U?
High Performance Low Power Advanced Digital TV Silicon Tuner
footprint RT720
pins: 1 gnd (power), 2 det (power), 3 nc (power), 4 address (power), 5 nc (power), 6 vdd (power), 7 cp (power), 8 xtal_i (power), 9 xtal_o (power), 10 vagc (power), 11 clk (power), 12 vopq (power), 13 vonq (power), 14 von (power), 15 vop (power), 16 sclk (power), 17 sda (power), 18 vbat (power), 19 gnd (power), 20 rf_in (power), 21 gnd (power)

## RTL8201
designator U?
Single-chip/single-port 10/100M Fast Ethernet PHYCEIVER (with Auto Crossover)
pins: 1 COL (power), 2 TXEN (power), 3 TXD3 (power), 4 TXD2 (power), 5 TXD1 (power), 6 TXD0 (power), 7 TXC (power), 8 PWFBIN (power), 9 LED0/PHYAD0 (power), 10 LED1/PHYAD1 (power), 11 DGND (power), 12 LED2/PHYAD2 (power), 13 LED3/PHYAD3 (power), 14 DVDD33 (power), 15 LED4/PHYAD4 (power), 16 RXC (power), 17 DGND (power), 18 RXD3 (power), 19 RXD2 (power), 20 RXD1 (power), 21 RXD0 (power), 22 RXDV (power), 23 CRS (power), 24 RXER/FXER (power), 25 MDC (power), 26 MDIO (power), 27 NC (power), 28 RTSET (power), 29 AGND (power), 30 TPRX- (power), 31 TPRX+ (power), 32 PWFBOUT (power), 33 TPTX- (power), 34 TPTX+ (power), 35 AGND (power), 36 AVDD33 (power), 37 ANE (power), 38 DUPLEX (power), 39 SPEED (power), 40 RPTR (power), 41 LDPS (power), 42 RESETB (power), 43 ISOLATE (power), 44 MII/SNIB/RTT3 (power), 45 DGND (power), 46 X1 (power), 47 X2 (power), 48 DVDD33 (power)

## SCA-4-10-75+
designator U?  (value not drawn)
Power Splitter/Combiner; Manufacturer: Mini-Circuits; Value: *; Part: SCA-4-10-75+; Manufacturer P/N: SCA-4-10-75+; Family: Chip
footprint DZ943
pins: 1 Gnd (power), 2 Gnd (power), 3 SumPort, 4 Gnd (power), 5 Gnd (power), 6 Port#1, 7 Port#2, 8 Gnd (power), 9 Port#3, 10 Port#4

## SI2141
designator U?
Digital TV tuner; Manufacturer: Silicon Labs; Manufacturer P/N: Si2141-A10-GM; ComponentLink1Description: Manufacturer; ComponentLink1URL: http://www.silabs.com/Pages/default.aspx; ComponentLink2Description: No Open Datasheet; Part: SI2141-A10-GM; Family: Chip
footprint SI2141
pins: 1 GPIO2 (io), 2 SDAT, 3 SCLK, 4 AGC2, 5 AGC1, 6 GND, 7 VDD_L, 8 GND, 9 VDD_H, 10 LIF_N (out), 11 LIF_P (out), 12 Xout, 13 XTAL_I, 14 XTAL_O, 15 VDD_H, 16 GND, 17 VDD_H, 19 RF_REF (out), 20 RF_IP (in), 21 GND, 22 RF_IN (in), 23 ADDR, 24 GPIO1 (io), GPAD GND

## SI_CP2120
designator U?
SPI TO I2C BRIDGE AND GPIO PORT EXPANDER; Manufacturer: Silicon Labs; Manufacturer P/N: CP2120-GM; ComponentLink1Description: Manufacturer; ComponentLink1URL: http://www.silabs.com/Pages/default.aspx; ComponentLink2Description: Datasheet; ComponentLink2URL: http://www.mouser.com/ds/2/368/CP2120-33156.pdf; Part: CP2120-GM; Family: Chip
footprint QFN20(4x4)_L (QFN, 20-Leads, Body 4x4mm, Pitch 0.5mm, Thermal Pad 2.7x2.7mm, IPC High Density)
footprint QFN20(4x4)_M (QFN, 20-Leads, Body 4x4mm, Pitch 0.5mm, Thermal Pad 2.7x2.7mm, IPC Low Density)
footprint QFN20(4x4)_N (QFN, 20-Leads, Body 4x4mm, Pitch 0.5mm, Thermal Pad 2.7x2.7mm, IPC Medium Density)
pins: 1 SCLK, 2 GND, 3 VDD, 4 ~{RST}, 5 GPIO0, 6 GPIO7, 7 GPIO6, 8 GPIO5, 9 GPIO4, 10 GPIO3, 11 GPIO2, 12 GPIO1, 13 EINT, 14 ~{INT}, 15 NC, 16 SCL, 17 SDA, 18 ~{CS}, 19 MOSI, 20 MISO

## SN74AHC1G08DCK
designator D?
Single 2-Input Positive-AND Gate (error in footprint); Manufacturer: Texas Instruments; Manufacturer P/N: TPS3808G09DBVT; ComponentLink1Desription: *; ComponentLink1URL: *; ComponentLink2Description: *; ComponentLink2URL: *; Family: Chip; Part: TPS3808G09DBVT; ComponentLink3Description: Manufacturer; ComponentLink3URL: www.ti.com; ComponentLink4Description: Datasheet; ComponentLink4URL: www.ti.com/lit/ds/symlink/tps3808.pdf
footprint SOT23_MF05A_M (SOT23, 5-Leads, Body 2.9x1.6mm, Pitch 0.95mm, Lead Span 2.8mm, IPC Low Density)
pins: 1 A, 2 B, 3 GND, 4 Y, 5 Vdd
text: &

## SN74CBTLV3257PWR
designator D?
Low-Voltage 4-Bit 1-of-2 FET Multiplexer/Demultiplexer; Manufacturer: Texas Instruments; ComponentLink1Description: Manufacturer; ComponentLink1URL: http://www.ti.com; ComponentLink2Description: Datasheet; ComponentLink2URL: https://www.ti.com/lit/ds/symlink/sn74cbtlv3257.pdf; Family: chip; Manufacturer P/N: SN74CBTLV3257PWR; Part: SN74CBTLV3257PWR
footprint SSOP-16
pins: 1 S (in), 2 1B1 (io), 3 1B2 (io), 4 1A (io), 5 2B1 (io), 6 2B2 (io), 7 2A (io), 8 GND, 9 3A (io), 10 3B2 (io), 11 3B1 (io), 12 4A (io), 13 4B2 (io), 14 4B1 (io), 15 ~{OE} (in), 16 Vcc

## SN74LVC1G04DBVR
designator D?
Single Inverter Gate; Manufacturer: Texas Instruments; ComponentLink1Description: Manufacturer; ComponentLink1URL: http://www.ti.com; ComponentLink2Description: Datasheet; ComponentLink2URL: http://www.ti.com/lit/ds/symlink/sn74lvc1g04.pdf; Family: chip; Manufacturer P/N: SN74LVC1G04DBVR; Part: SN74LVC1G04DBVR
pins: 1 NC, 2 A, 3 GND, 4 Y, 5 Vcc

## SN74LVC07ADR
designator D?
Hex Buffer and Driver with Open-Drain Outputs; ComponentLink1Desription: *; ComponentLink1URL: *; ComponentLink2Description: *; ComponentLink2URL: *; Family: *; Manufacturer: *; Manufacturer P/N: *; Part: *
pins: 1 1A, 2 1Y, 3 2A, 4 2Y, 5 3A, 6 3Y, 7 GND, 8 4Y, 9 4A, 10 5Y, 11 5A, 12 6Y, 13 6A, 14 VCC

## SN65220DBV
designator U?
USB Port Transient Suppressor; Manufacturer: Texas Instruments; Manufacturer P/N: SN65220DBVT; ComponentLink1Description: Manufacturer; ComponentLink1URL: http://www.ti.com; ComponentLink2Description: Datasheet; ComponentLink2URL: http://www.ti.com/lit/ds/symlink/sn65220.pdf; Part: SN65220DBVT; Family: Chip
footprint DBV0006A_L (SOT23, 6-Leads, Body 3.05x1.75mm, Pitch 0.95mm, IPC High Density)
footprint DBV0006A_M (SOT23, 6-Leads, Body 3.05x1.75mm, Pitch 0.95mm, IPC Low Density)
footprint DBV0006A_N (SOT23, 6-Leads, Body 3.05x1.75mm, Pitch 0.95mm, IPC Medium Density)
pins: 1 NC, 2 GND (power), 3 NC, 4 B, 5 GND (power), 6 A

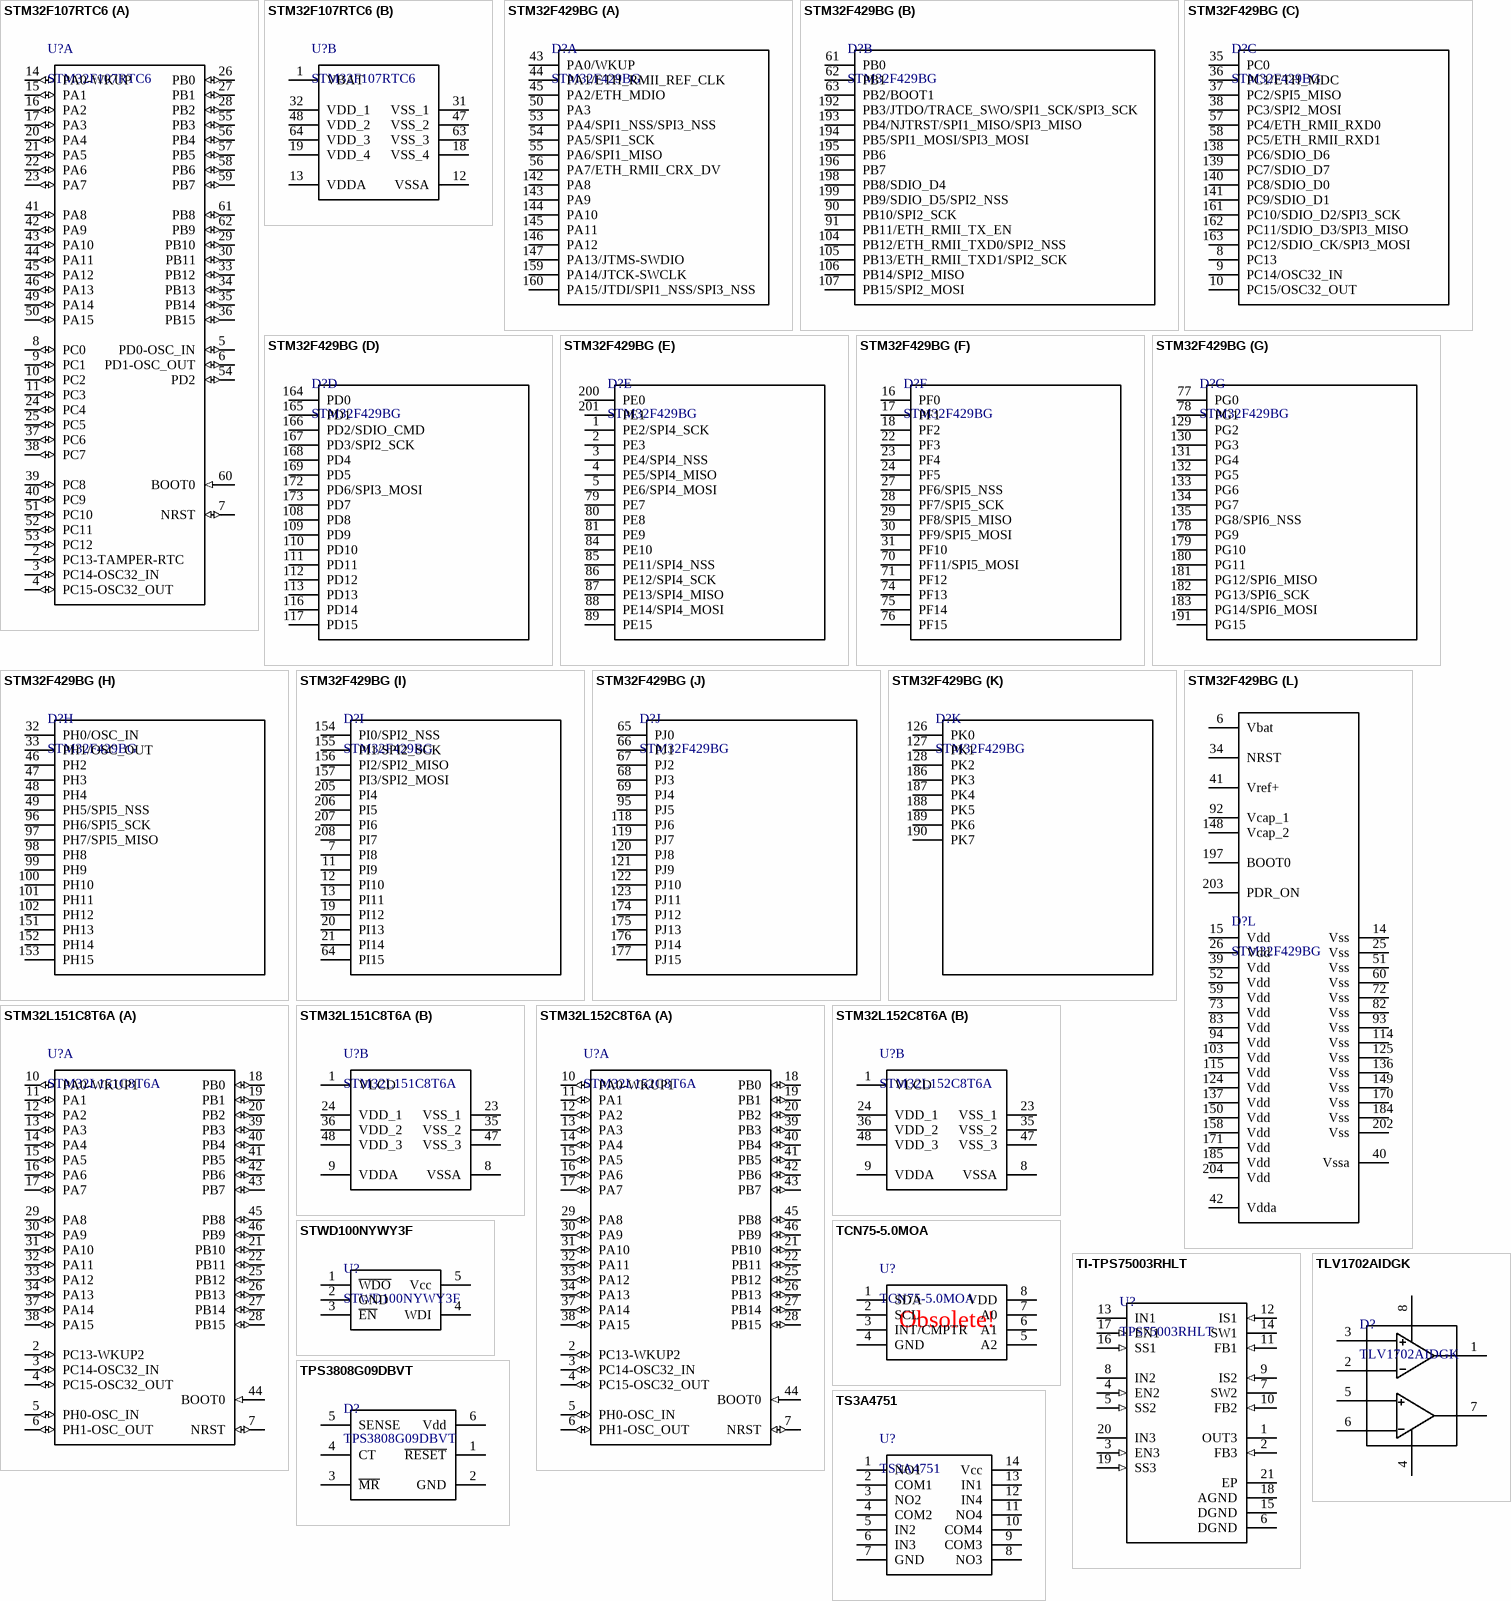
[diagram p6: symbols STM32F107RTC6 to TS3A4751]

## STM32F107RTC6
designator U?
part A pins: 2 PC13-TAMPER-RTC (io) "PC13-TAMPER-RTC/PC13/TAMPER-RTC", 3 PC14-OSC32_IN (io) "PC14-OSC32_IN/PC14/OSC32_IN", 4 PC15-OSC32_OUT (io) "PC15-OSC32_OUT/PC15/OSC32_OUT", 5 PD0-OSC_IN (io) "PD0/OSC_IN", 6 PD1-OSC_OUT (io) "PD1/OSC_OUT", 7 NRST (io), 8 PC0 (io) "PC0/ADC12_IN10", 9 PC1 (io) "PC1/ADC12_IN11/ETH_MII_MDC/ETH_RMII_MDC", 10 PC2 (io) "PC2/ADC12_IN12/ETH_MII_TXD2", 11 PC3 (io) "PC3/ADC12_IN13/ETH_MII_TX_CLK", 14 PA0-WKUP (io) "PA0-WKUP/PA0/WKUP/USART2_CTS/ADC12_IN0/TIM2_CH1_ETR/TIM5_CH1/ETH_MII_CRS_WKUP", 15 PA1 (io) "PA1/USART2_RTS/ADC12_IN1/TIM5_CH2/TIM2_CH2/ETH_MII_RX_CLK/ETH_RMII_REF_CLK", 16 PA2 (io) "PA2/USART2_TX/TIM5_CH3/ADC12_IN2/TIM2_CH3/ETH_MII_MDIO/ETH_RMII_MDIO", 17 PA3 (io) "PA3/USART2_RX/TIM5_CH4/ADC12_IN3/TIM2_CH4/ETH_MII_COL", 20 PA4 (io) "PA4/SPI1_NSS/DAC_OUT1/USART2_CK/ADC12_IN4/SPI3_NSS/I2S3_WS", 21 PA5 (io) "PA5/SPI1_SCK/DAC_OUT2/ADC12_IN5", 22 PA6 (io) "PA6/SPI1_MISO/ADC12_IN6/TIM3_CH1/TIM1_BKIN", 23 PA7 (io) "PA7/SPI1_MOSI/ADC12_IN7/TIM3_CH2/ETH_MII_RX_DV/ETH_RMII_CRS_DV/TIM1_CH1N", 24 PC4 (io) "PC4/ADC12_IN14/ETH_MII_RXD0/ETH_RMII_RXD0", 25 PC5 (io) "PC5/ADC12_IN15/ETH_MII_RXD1/ETH_RMII_RXD1", 26 PB0 (io) "PB0/ADC12_IN8/TIM3_CH3/ETH_MII_RXD2/TIM1_CH2N", 27 PB1 (io) "PB1/ADC12_IN9/TIM3_CH4/ETH_MII_RXD3/TIM1_CH3N", 28 PB2 (io) "PB2/BOOT1", 29 PB10 (io) "PB10/I2C2_SCL/USART3_TX/ETH_MII_RX_ER/TIM2_CH3", 30 PB11 (io) "PB11/I2C2_SDA/USART3_RX/ETH_MII_TX_EN/ETH_RMII_TX_EN/TIM2_CH4", 33 PB12 (io) "PB12/SPI2_NSS/I2S2_WS/I2C2_SMBA/USART3_CK/TIM1_BKIN/CAN2_RX/ETH_MII_TXD0/ETH_RMII_TXD0", 34 PB13 (io) "PB13/SPI2_SCK/I2S2_CK/USART3_CTS/TIM1_CH1N/CAN2_TX/ETH_MII_TXD1/ETH_RMII_TXD1", 35 PB14 (io) "PB14/SPI2_MISO/TIM1_CH2N/USART3_RTS", 36 PB15 (io) "PB15/SPI2_MOSI/I2S2_SD/TIM1_CH3N", 37 PC6 (io) "PC6/I2S2_MCK/TIM3_CH1", 38 PC7 (io) "PC7/I2S3_MCK/TIM3_CH2", 39 PC8 (io) "PC8/TIM3_CH3", 40 PC9 (io) "PC9/TIM3_CH4", 41 PA8 (io) "PA8/USART1_CK/OTG_FS_SOF/TIM1_CH1/MCO", 42 PA9 (io) "PA9/USART1_TX/TIM1_CH2/OTG_FS_VBUS", 43 PA10 (io) "PA10/USART1_RX/TIM1_CH3/OTG_FS_ID", 44 PA11 (io) "PA11/USART1_CTS/CAN1_RX/TIM1_CH4/OTG_FS_DM", 45 PA12 (io) "PA12/USART1_RTS/OTG_FS_DP/CAN1_TX/TIM1_ETR", 46 PA13 (io) "PA13/JTMS-SWDIO", 49 PA14 (io) "PA14/JTCK-SWCLK", 50 PA15 (io) "PA15/JTDI/SPI3_NSS/I2S3_WS/TIM2_CH1_ETR/SPI1_NSS", 51 PC10 (io) "PC10/UART4_TX/USART3_TX/SPI3_SCK/I2S3_CK", 52 PC11 (io) "PC11/UART4_RX/USART3_RX/SPI3_MISO", 53 PC12 (io) "PC12/UART5_TX/USART3_CK/SPI3_MOSI/I2S3_SD", 54 PD2 (io) "PD2/TIM3_ETR/UART5_RX", 55 PB3 (io) "PB3/JTDO/SPI3_SCK/I2S3_CK/TRACESWO/TIM2_CH2/SPI1_SCK", 56 PB4 (io) "PB4/NJTRST/SPI3_MISO/TIM3_CH1/SPI1_MISO", 57 PB5 (io) "PB5/I2C1_SMBA/SPI3_MOSI/ETH_MII_PPS_OUT/I2S3_SD/ETH_RMII_PPS_OUT/TIM3_CH2/SPI1_MOSI/CAN2_RX", 58 PB6 (io) "PB6/I2C1_SCL/TIM4_CH1/USART1_TX/CAN2_TX", 59 PB7 (io) "PB7/I2C1_SDA/TIM4_CH2/USART1_RX", 60 BOOT0 (in), 61 PB8 (io) "PB8/TIM4_CH3/ETH_MII_TXD3/I2C1_SCL/CAN1_RX", 62 PB9 (io) "PB9/TIM4_CH4/I2C1_SDA/CAN1_TX"
part B pins: 1 VBAT (power), 12 VSSA (power), 13 VDDA (power), 18 VSS_4 (power), 19 VDD_4 (power), 31 VSS_1 (power), 32 VDD_1 (power), 47 VSS_2 (power), 48 VDD_2 (power), 63 VSS_3 (power), 64 VDD_3 (power)

## STM32F429BG
designator D?
ComponentLink1Description: *; ComponentLink1URL: *; ComponentLink2Description: *; ComponentLink2URL: *; Manufacturer: *; Manufacturer P/N: STM32F429BG; Family: *; Part: STM32F429BG
footprint LQFP208
part A pins: 43 PA0/WKUP, 44 PA1/ETH_RMII_REF_CLK, 45 PA2/ETH_MDIO, 50 PA3, 53 PA4/SPI1_NSS/SPI3_NSS, 54 PA5/SPI1_SCK, 55 PA6/SPI1_MISO, 56 PA7/ETH_RMII_CRX_DV, 142 PA8, 143 PA9, 144 PA10, 145 PA11, 146 PA12, 147 PA13/JTMS-SWDIO, 159 PA14/JTCK-SWCLK, 160 PA15/JTDI/SPI1_NSS/SPI3_NSS
part B pins: 61 PB0, 62 PB1, 63 PB2/BOOT1, 90 PB10/SPI2_SCK, 91 PB11/ETH_RMII_TX_EN, 104 PB12/ETH_RMII_TXD0/SPI2_NSS, 105 PB13/ETH_RMII_TXD1/SPI2_SCK, 106 PB14/SPI2_MISO, 107 PB15/SPI2_MOSI, 192 PB3/JTDO/TRACE_SWO/SPI1_SCK/SPI3_SCK, 193 PB4/NJTRST/SPI1_MISO/SPI3_MISO, 194 PB5/SPI1_MOSI/SPI3_MOSI, 195 PB6, 196 PB7, 198 PB8/SDIO_D4, 199 PB9/SDIO_D5/SPI2_NSS
part C pins: 8 PC13, 9 PC14/OSC32_IN, 10 PC15/OSC32_OUT, 35 PC0, 36 PC1/ETH_MDC, 37 PC2/SPI5_MISO, 38 PC3/SPI2_MOSI, 57 PC4/ETH_RMII_RXD0, 58 PC5/ETH_RMII_RXD1, 138 PC6/SDIO_D6, 139 PC7/SDIO_D7, 140 PC8/SDIO_D0, 141 PC9/SDIO_D1, 161 PC10/SDIO_D2/SPI3_SCK, 162 PC11/SDIO_D3/SPI3_MISO, 163 PC12/SDIO_CK/SPI3_MOSI
part D pins: 108 PD8, 109 PD9, 110 PD10, 111 PD11, 112 PD12, 113 PD13, 116 PD14, 117 PD15, 164 PD0, 165 PD1, 166 PD2/SDIO_CMD, 167 PD3/SPI2_SCK, 168 PD4, 169 PD5, 172 PD6/SPI3_MOSI, 173 PD7
part E pins: 1 PE2/SPI4_SCK, 2 PE3, 3 PE4/SPI4_NSS, 4 PE5/SPI4_MISO, 5 PE6/SPI4_MOSI, 79 PE7, 80 PE8, 81 PE9, 84 PE10, 85 PE11/SPI4_NSS, 86 PE12/SPI4_SCK, 87 PE13/SPI4_MISO, 88 PE14/SPI4_MOSI, 89 PE15, 200 PE0, 201 PE1
part F pins: 16 PF0, 17 PF1, 18 PF2, 22 PF3, 23 PF4, 24 PF5, 27 PF6/SPI5_NSS, 28 PF7/SPI5_SCK, 29 PF8/SPI5_MISO, 30 PF9/SPI5_MOSI, 31 PF10, 70 PF11/SPI5_MOSI, 71 PF12, 74 PF13, 75 PF14, 76 PF15
part G pins: 77 PG0, 78 PG1, 129 PG2, 130 PG3, 131 PG4, 132 PG5, 133 PG6, 134 PG7, 135 PG8/SPI6_NSS, 178 PG9, 179 PG10, 180 PG11, 181 PG12/SPI6_MISO, 182 PG13/SPI6_SCK, 183 PG14/SPI6_MOSI, 191 PG15
part H pins: 32 PH0/OSC_IN, 33 PH1/OSC_OUT, 46 PH2, 47 PH3, 48 PH4, 49 PH5/SPI5_NSS, 96 PH6/SPI5_SCK, 97 PH7/SPI5_MISO, 98 PH8, 99 PH9, 100 PH10, 101 PH11, 102 PH12, 151 PH13, 152 PH14, 153 PH15
part I pins: 7 PI8, 11 PI9, 12 PI10, 13 PI11, 19 PI12, 20 PI13, 21 PI14, 64 PI15, 154 PI0/SPI2_NSS, 155 PI1/SPI2_SCK, 156 PI2/SPI2_MISO, 157 PI3/SPI2_MOSI, 205 PI4, 206 PI5, 207 PI6, 208 PI7
part J pins: 65 PJ0, 66 PJ1, 67 PJ2, 68 PJ3, 69 PJ4, 95 PJ5, 118 PJ6, 119 PJ7, 120 PJ8, 121 PJ9, 122 PJ10, 123 PJ11, 174 PJ12, 175 PJ13, 176 PJ14, 177 PJ15
part K pins: 126 PK0, 127 PK1, 128 PK2, 186 PK3, 187 PK4, 188 PK5, 189 PK6, 190 PK7
part L pins: 6 Vbat, 14 Vss, 15 Vdd, 25 Vss, 26 Vdd, 34 NRST, 39 Vdd, 40 Vssa, 41 Vref+, 42 Vdda, 51 Vss, 52 Vdd, 59 Vdd, 60 Vss, 72 Vss, 73 Vdd, 82 Vss, 83 Vdd, 92 Vcap_1, 93 Vss, 94 Vdd, 103 Vdd, 114 Vss, 115 Vdd, 124 Vdd, 125 Vss, 136 Vss, 137 Vdd, 148 Vcap_2, 149 Vss, 150 Vdd, 158 Vdd, 170 Vss, 171 Vdd, 184 Vss, 185 Vdd, 197 BOOT0, 202 Vss, 203 PDR_ON, 204 Vdd

## STM32L151C8T6A
designator U?
ComponentLink1Description: Manufacturer; ComponentLink1URL: *; ComponentLink2Description: Datasheet; ComponentLink2URL: *; Family: *; Manufacturer: *; Manufacturer P/N: STM32L151C8T6A; Part: STM32L151C8T6A
footprint STM-LQFP48_L (QFP, 48-Leads, Body 7x7mm, Pitch 0.5mm, IPC High Density)
footprint STM-LQFP48_M (QFP, 48-Leads, Body 7x7mm, Pitch 0.5mm, IPC Low Density)
footprint STM-LQFP48_N (QFP, 48-Leads, Body 7x7mm, Pitch 0.5mm, IPC Medium Density)
part A pins: 2 PC13-WKUP2 (io) "PC13-WKUP2/PC13/RTC_TAMP1/RTC_TS/RTC_OUT/WKUP2", 3 PC14-OSC32_IN (io) "PC14-OSC32_IN/PC14/OSC32_IN", 4 PC15-OSC32_OUT (io) "PC15-OSC32_OUT/PC15/OSC32_OUT", 5 PH0-OSC_IN (io) "PH0-OSC_IN/PH0/OSC_IN", 6 PH1-OSC_OUT (io) "PH1-OSC_OUT/PH1/OSC_OUT", 7 NRST (io), 10 PA0-WKUP1 (io) "PA0-WKUP1/PA0/WKUP1/USART2_CTS/ADC_IN0/TIM2_CH1_ETR/COMP1_INP", 11 PA1 (io) "PA1/USART2_RTS/ADC_IN1/TIM2_CH2/LCD_SEG0/COMP1_INP", 12 PA2 (io) "PA2/USART2_TX/ADC_IN2/TIM2_CH3/TIM9_CH1/LCD_SEG1/COMP1_INP", 13 PA3 (io) "PA3/USART2_RX/ADC_IN3/TIM2_CH4/TIM9_CH2/LCD_SEG2/COMP1_INP", 14 PA4 (io) "PA4/SPI1_NSS/USART2_CK/ADC_IN4/DAC_OUT1/COMP1_INP", 15 PA5 (io) "PA5/SPI1_SCK/ADC_IN5/DAC_OUT2/TIM2_CH1_ETR/COMP1_INP", 16 PA6 (io) "PA6/SPI1_MISO/ADC_IN6/TIM3_CH1/LCD_SEG3/TIM10_CH1/COMP1_INP", 17 PA7 (io) "PA7/SPI1_MOSI/ADC_IN7/TIM3_CH2/LCD_SEG4/TIM11_CH1/COMP1_INP", 18 PB0 (io) "PB0/ADC_IN8/TIM3_CH3/LCD_SEG5/COMP1_INP/VREF_OUT", 19 PB1 (io) "PB1/ADC_IN9/TIM3_CH4/LCD_SEG6/COMP1_INP/VREF_OUT", 20 PB2 (io) "PB2/BOOT1", 21 PB10 (io) "PB10/I2C2_SCL/USART3_TX/TIM2_CH3/LCD_SEG10", 22 PB11 (io) "PB11/I2C2_SDA/USART3_RX/TIM2_CH4/LCD_SEG11", 25 PB12 (io) "PB12/SPI2_NSS/I2C2_SMBA/USART3_CK/LCD_SEG12/ADC_IN18/COMP1_INP/TIM10_CH1", 26 PB13 (io) "PB13/SPI2_SCK/USART3_CTS/LCD_SEG13/ADC_IN19/COMP1_INP/TIM9_CH1", 27 PB14 (io) "PB14/SPI2_MISO/USART3_RTS/LCD_SEG14/ADC_IN20/COMP1_INP/TIM9_CH2", 28 PB15 (io) "PB15/SPI2_MOSI/LCD_SEG15/ADC_IN21/COMP1_INP/TIM11_CH1/RTC_REFIN", 29 PA8 (io) "PA8/USART1_CK/MCO/LCD_COM0", 30 PA9 (io) "PA9/USART1_TX/LCD_COM1", 31 PA10 (io) "PA10/USART1_RX/LCD_COM2", 32 PA11 (io) "PA11/USART1_CTS/USB_DM/SPI1_MISO", 33 PA12 (io) "PA12/USART1_RTS/USB_DP/SPI1_MOSI", 34 PA13 (io) "PA13/JTMS/SWDAT", 37 PA14 (io) "PA14/JTCK/SWCLK", 38 PA15 (io) "PA15/JTDI/TIM2_CH1_ETR/SPI1_NSS/LCD_SEG17", 39 PB3 (io) "PB3/JTDO/TIM2_CH2/SPI1_SCK/COMP2_INM/LCD_SEG7", 40 PB4 (io) "PB4/NJTRST/TIM3_CH1/SPI1_MISO/COMP2_INP/LCD_SEG8", 41 PB5 (io) "PB5/I2C1_SMBA/TIM3_CH2/SPI1_MOSI/COMP2_INP/LCD_SEG9", 42 PB6 (io) "PB6/I2C1_SCL/TIM4_CH1/USART1_TX", 43 PB7 (io) "PB7/I2C1_SDA/TIM4_CH2/USART1_RX/PVD_IN", 44 BOOT0 (in), 45 PB8 (io) "PB8/TIM4_CH3/I2C1_SCL/LCD_SEG16/TIM10_CH1", 46 PB9 (io) "PB9/TIM4_CH4/I2C1_SDA/LCD_COM3/TIM11_CH1"
part B pins: 1 VLCD (power), 8 VSSA (power), 9 VDDA (power), 23 VSS_1 (power), 24 VDD_1 (power), 35 VSS_2 (power), 36 VDD_2 (power), 47 VSS_3 (power), 48 VDD_3 (power)

## STM32L152C8T6A
designator U?
ComponentLink1Description: Manufacturer; ComponentLink1URL: *; ComponentLink2Description: Datasheet; ComponentLink2URL: *; Family: *; Manufacturer: *; Manufacturer P/N: STM32L152C8T6A; Part: STM32L152C8T6A
footprint STM-LQFP48_L (QFP, 48-Leads, Body 7x7mm, Pitch 0.5mm, IPC High Density)
footprint STM-LQFP48_M (QFP, 48-Leads, Body 7x7mm, Pitch 0.5mm, IPC Low Density)
footprint STM-LQFP48_N (QFP, 48-Leads, Body 7x7mm, Pitch 0.5mm, IPC Medium Density)
part A pins: 2 PC13-WKUP2 (io) "PC13-WKUP2/PC13/RTC_TAMP1/RTC_TS/RTC_OUT/WKUP2", 3 PC14-OSC32_IN (io) "PC14-OSC32_IN/PC14/OSC32_IN", 4 PC15-OSC32_OUT (io) "PC15-OSC32_OUT/PC15/OSC32_OUT", 5 PH0-OSC_IN (io) "PH0-OSC_IN/PH0/OSC_IN", 6 PH1-OSC_OUT (io) "PH1-OSC_OUT/PH1/OSC_OUT", 7 NRST (io), 10 PA0-WKUP1 (io) "PA0-WKUP1/PA0/WKUP1/USART2_CTS/ADC_IN0/TIM2_CH1_ETR/COMP1_INP", 11 PA1 (io) "PA1/USART2_RTS/ADC_IN1/TIM2_CH2/LCD_SEG0/COMP1_INP", 12 PA2 (io) "PA2/USART2_TX/ADC_IN2/TIM2_CH3/TIM9_CH1/LCD_SEG1/COMP1_INP", 13 PA3 (io) "PA3/USART2_RX/ADC_IN3/TIM2_CH4/TIM9_CH2/LCD_SEG2/COMP1_INP", 14 PA4 (io) "PA4/SPI1_NSS/USART2_CK/ADC_IN4/DAC_OUT1/COMP1_INP", 15 PA5 (io) "PA5/SPI1_SCK/ADC_IN5/DAC_OUT2/TIM2_CH1_ETR/COMP1_INP", 16 PA6 (io) "PA6/SPI1_MISO/ADC_IN6/TIM3_CH1/LCD_SEG3/TIM10_CH1/COMP1_INP", 17 PA7 (io) "PA7/SPI1_MOSI/ADC_IN7/TIM3_CH2/LCD_SEG4/TIM11_CH1/COMP1_INP", 18 PB0 (io) "PB0/ADC_IN8/TIM3_CH3/LCD_SEG5/COMP1_INP/VREF_OUT", 19 PB1 (io) "PB1/ADC_IN9/TIM3_CH4/LCD_SEG6/COMP1_INP/VREF_OUT", 20 PB2 (io) "PB2/BOOT1", 21 PB10 (io) "PB10/I2C2_SCL/USART3_TX/TIM2_CH3/LCD_SEG10", 22 PB11 (io) "PB11/I2C2_SDA/USART3_RX/TIM2_CH4/LCD_SEG11", 25 PB12 (io) "PB12/SPI2_NSS/I2C2_SMBA/USART3_CK/LCD_SEG12/ADC_IN18/COMP1_INP/TIM10_CH1", 26 PB13 (io) "PB13/SPI2_SCK/USART3_CTS/LCD_SEG13/ADC_IN19/COMP1_INP/TIM9_CH1", 27 PB14 (io) "PB14/SPI2_MISO/USART3_RTS/LCD_SEG14/ADC_IN20/COMP1_INP/TIM9_CH2", 28 PB15 (io) "PB15/SPI2_MOSI/LCD_SEG15/ADC_IN21/COMP1_INP/TIM11_CH1/RTC_REFIN", 29 PA8 (io) "PA8/USART1_CK/MCO/LCD_COM0", 30 PA9 (io) "PA9/USART1_TX/LCD_COM1", 31 PA10 (io) "PA10/USART1_RX/LCD_COM2", 32 PA11 (io) "PA11/USART1_CTS/USB_DM/SPI1_MISO", 33 PA12 (io) "PA12/USART1_RTS/USB_DP/SPI1_MOSI", 34 PA13 (io) "PA13/JTMS/SWDAT", 37 PA14 (io) "PA14/JTCK/SWCLK", 38 PA15 (io) "PA15/JTDI/TIM2_CH1_ETR/SPI1_NSS/LCD_SEG17", 39 PB3 (io) "PB3/JTDO/TIM2_CH2/SPI1_SCK/COMP2_INM/LCD_SEG7", 40 PB4 (io) "PB4/NJTRST/TIM3_CH1/SPI1_MISO/COMP2_INP/LCD_SEG8", 41 PB5 (io) "PB5/I2C1_SMBA/TIM3_CH2/SPI1_MOSI/COMP2_INP/LCD_SEG9", 42 PB6 (io) "PB6/I2C1_SCL/TIM4_CH1/USART1_TX", 43 PB7 (io) "PB7/I2C1_SDA/TIM4_CH2/USART1_RX/PVD_IN", 44 BOOT0 (in), 45 PB8 (io) "PB8/TIM4_CH3/I2C1_SCL/LCD_SEG16/TIM10_CH1", 46 PB9 (io) "PB9/TIM4_CH4/I2C1_SDA/LCD_COM3/TIM11_CH1"
part B pins: 1 VLCD (power), 8 VSSA (power), 9 VDDA (power), 23 VSS_1 (power), 24 VDD_1 (power), 35 VSS_2 (power), 36 VDD_2 (power), 47 VSS_3 (power), 48 VDD_3 (power)

## STWD100NYWY3F
designator U?
Watchdog timer circuit
footprint ADI-KS-5_L (SOT23, 5-Leads, Body 2x1.25mm, Pitch 0.65mm, IPC High Density)
pins: 1 ~{WDO}, 2 GND, 3 ~{EN}, 4 WDI, 5 Vcc

## TCN75-5.0MOA
designator U?
2-Wire Serial Temperature Sensor and Thermal Monitor; Manufacturer: Microchip; ComponentLink1Description: *; ComponentLink1URL: *; ComponentLink2Description: *; ComponentLink2URL: *; Family: Chip; Manufacturer P/N: TCN75-5.0MOA; Part: TCN75-5.0MOA
footprint SOIC_8_1.27_N (SOIC, 8-Leads, Body 4.89x3.9mm, Pitch 1.27mm, IPC Medium Density)
pins: 1 SDA, 2 SCL, 3 INT/CMPTR, 4 GND, 5 A2, 6 A1, 7 A0, 8 VDD
text: Obsolete!

## TI-TPS75003RHLT
designator U?, comment TPS75003RHLT
Integrated Triple Supply Power Management IC for Xilinx (R) Spartan (TM)-3 FPGAs, 2.2 to 6.5 V, -40 to 85 degC, 20-pin QFN (RHL); Manufacturer: Texas Instruments; ComponentLink1Description: Manufacturer; ComponentLink1URL: http://www.ti.com; ComponentLink2Description: Datasheet; ComponentLink2URL: http://www.ti.com/lit/ds/symlink/tps75003.pdf; Manufacturer P/N: TPS75003RHLT; Part: TPS75003RHLT; Family: Chip
footprint RHL20-3050X2050TP (QFN, 20-Leads, Body 4.5x3.5mm, Pitch 0.5mm, Thermal Pad 3.05x2.05mm, TI Recommended)
pins: 1 OUT3 (power) "Regulated LDO output. A small ceramic capacitor (>= 2.2uF) is needed from this pin to ground to ensure stability.", 2 FB3 (in) "Same as FB1 but for LDO.", 3 EN3 (in) "Same as EN1 but for LDO.", 4 EN2 (in) "Same as EN1 but for BUCK2 controller.", 5 SS2 (in) "Same as SS1 but for BUCK2 regulator.", 6 DGND (power) "Ground connection for BUCK1 and BUCK2 converters. Pins 6 and 15 should be connected to the back side exposed pad by a short metal trace as shown in the PCB Layout section of this data sheet.", 7 SW2 (power) "Same as SW1 but for BUCK2 controller.", 8 IN2 (power) "Input supply to BUCK2.", 9 IS2 (in) "Same as IS1 but compared to IN2 and used for BUCK2 controller.", 10 FB2 (in) "Same as FB1 but for BUCK2 controller.", 11 FB1 (in) "Feedback pin. Used to set the output voltage of BUCK1 regulator.", 12 IS1 (in) "Current sense input for BUCK1 regulator. The voltage difference between this pin and IN1 is compared to an internal reference to set current limit. For a robust output start-up ramp, careful layout and bypassing are required.(See Datasheet)", 13 IN1 (power) "Input supply to BUCK1.", 14 SW1 (power) "Gate drive pin for external BUCK1 P-channel MOSFET.", 15 DGND (power) "Ground connection for BUCK1 and BUCK2 converters. Pins 6 and 15 should be connected to the back side exposed pad by a short metal trace as shown in the PCB Layout section of this data sheet.", 16 SS1 (in) "Connecting a capacitor between this pin and ground increases start-up time of the BUCK1 regulator by slowing the ramp-up of current limit. This high-impedance pin is noise-sensitive; careful layout is important. See the (See Datasheet)", 17 EN1 (in) "Driving the enable pin (ENx) high turns on BUCK1 regulator. Driving this pin low puts it into shutdown mode, reducing operating current. The enable pin does not trigger on fast negative going transients.", 18 AGND (power) "Ground connection for LDO.", 19 SS3 (in) "Connecting a capacitor from this pin to ground slows the start-up time of the LDO reference, therby slowing output voltage ramp-up. See the Applications section for details.", 20 IN3 (power) "Input supply to LDO.", 21 EP (power) "Ground connection for BUCK1 and BUCK2 converters. Pins 6 and 15 should be connected to the back side exposed pad by a short metal trace as shown in the PCB Layout section of this data sheet."

## TLV1702AIDGK
designator D?
2.2-V to 36-V microPower Comparator; Manufacturer: Texas Instruments; ComponentLink1Description: Manufacturer; ComponentLink1URL: http://www.ti.com; ComponentLink2Description: Datasheet; ComponentLink2URL: http://www.mouser.com/ds/2/405/tlv1702-556650.pdf; Manufacturer P/N: TLV1702AIDGK; Part: TLV1702AIDGK; Family: Chip
footprint TI-DGK8_V (VSSOP, 8-Leads, Body 3x3mm, Pitch 0.65mm)
pins: 1, 2, 3, 4, 5, 6, 7, 8

## TPS3808G09DBVT
designator D?
Low-Quiescent-Current, Programmable-Delay Supervisory Circuit; Manufacturer: Texas Instruments; ComponentLink1Desription: *; ComponentLink1URL: *; ComponentLink2Description: *; ComponentLink2URL: *; Family: Chip; Manufacturer P/N: TPS3808G09DBVT; Part: TPS3808G09DBVT; ComponentLink3Description: Manufacturer; ComponentLink3URL: www.ti.com; ComponentLink4Description: Datasheet; ComponentLink4URL: www.ti.com/lit/ds/symlink/tps3808.pdf
footprint SOT23-6pin (Pich 0.95, Width 2.6)
pins: 1 ~{RESET}, 2 GND, 3 ~{MR}, 4 CT, 5 SENSE, 6 Vdd

## TS3A4751
designator U?
0.9-Ω Low-Voltage, Single-Supply, 4-Channel SPST Analog Switch; Manufacturer: Texas Instruments; Manufacturer P/N: TS3A4751PWR; ComponentLink1Description: Manufacturer; ComponentLink1URL: *; ComponentLink2Description: Datasheet; ComponentLink2URL: *; Family: Chip; Part: TS3A4751PWR
footprint TSSOP-ST14_N (TSOP, 14-Leads, Body 5x4.4mm, Pitch 0.65mm, IPC Medium Density)
pins: 1 NO1, 2 COM1, 3 NO2, 4 COM2, 5 IN2, 6 IN3, 7 GND, 8 NO3, 9 COM3, 10 COM4, 11 NO4, 12 IN4, 13 IN1, 14 Vcc

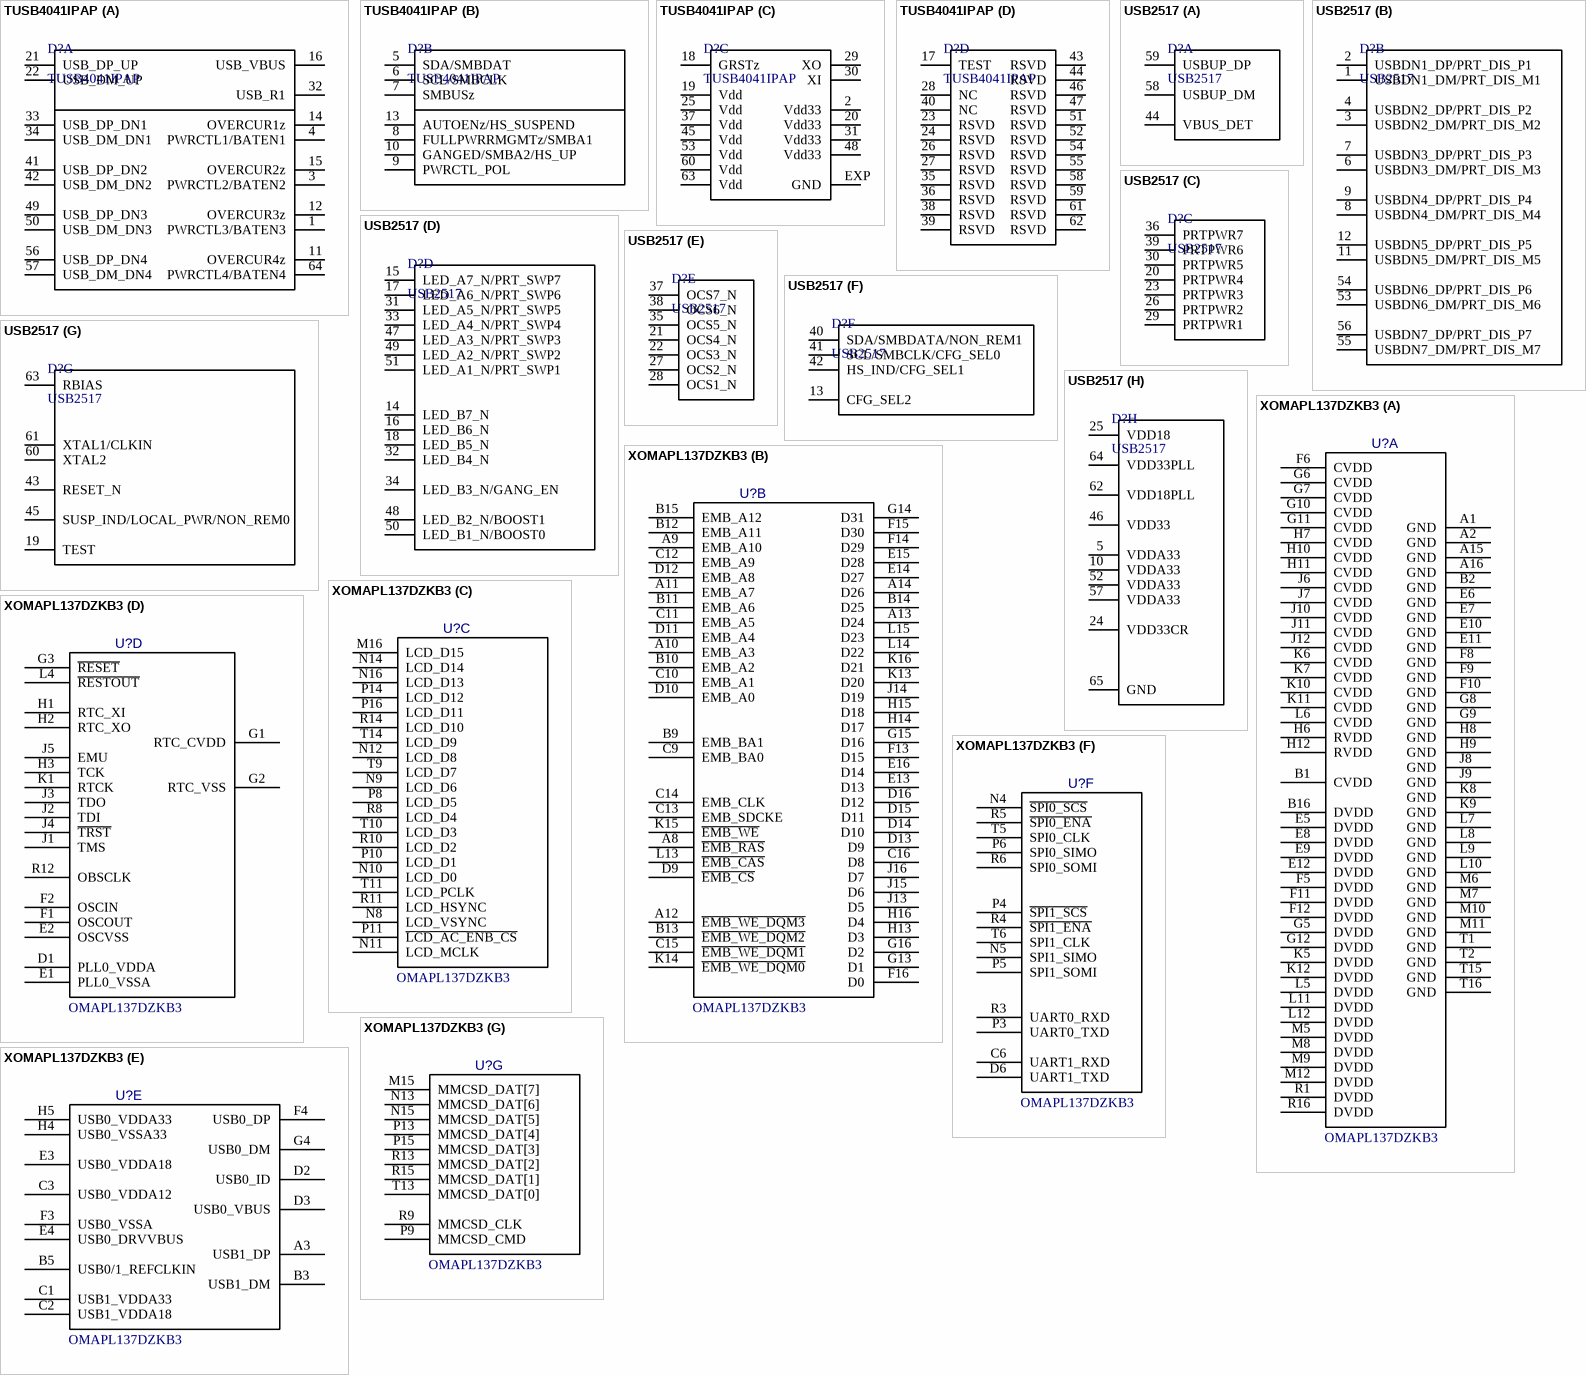
[diagram p7: symbols TUSB4041IPAP to XOMAPL137DZKB3]

## TUSB4041IPAP
designator D?
Four-Port USB 2.0 Hub; ComponentLink1Description: Manufacturer; ComponentLink1URL: http://www.ti.com; ComponentLink2Description: Datasheet; ComponentLink2URL: http://www.ti.com/lit/ds/symlink/tusb4041i.pdf; Family: *; Manufacturer: *; Manufacturer P/N: *; Part: *
footprint HTQFP-64-EXP
part A pins: 1 PWRCTL3/BATEN3, 3 PWRCTL2/BATEN2, 4 PWRCTL1/BATEN1, 11 OVERCUR4z, 12 OVERCUR3z, 14 OVERCUR1z, 15 OVERCUR2z, 16 USB_VBUS, 21 USB_DP_UP, 22 USB_DM_UP, 32 USB_R1, 33 USB_DP_DN1, 34 USB_DM_DN1, 41 USB_DP_DN2, 42 USB_DM_DN2, 49 USB_DP_DN3, 50 USB_DM_DN3, 56 USB_DP_DN4, 57 USB_DM_DN4, 64 PWRCTL4/BATEN4
part B pins: 5 SDA/SMBDAT, 6 SCL/SMBCLK, 7 SMBUSz, 8 FULLPWRRMGMTz/SMBA1, 9 PWRCTL_POL, 10 GANGED/SMBA2/HS_UP, 13 AUTOENz/HS_SUSPEND
part C pins: 2 Vdd33, 18 GRSTz, 19 Vdd, 20 Vdd33, 25 Vdd, 29 XO, 30 XI, 31 Vdd33, 37 Vdd, 45 Vdd, 48 Vdd33, 53 Vdd, 60 Vdd, 63 Vdd, EXP GND
part D pins: 17 TEST, 23 RSVD, 24 RSVD, 26 RSVD, 27 RSVD, 28 NC, 35 RSVD, 36 RSVD, 38 RSVD, 39 RSVD, 40 NC, 43 RSVD, 44 RSVD, 46 RSVD, 47 RSVD, 51 RSVD, 52 RSVD, 54 RSVD, 55 RSVD, 58 RSVD, 59 RSVD, 61 RSVD, 62 RSVD

## USB2517
designator D?
USB 2.0 Hi-Speed 7-Port Hub Controller; Manufacturer: Microchip; Manufacturer P/N: USB2517-JZX; ComponentLink1Description: Manufacturer; ComponentLink1URL: http://www.microchip.com; ComponentLink2Description: Datasheet; ComponentLink2URL: http://ww1.microchip.com/downloads/en/DeviceDoc/2517.pdf; Family: Chip; Part: USB2517-JZX
footprint CP-64-1_L (QFN, 64-Leads, Body 9x9mm, Pitch 0.5mm, Thermal Pad 4.7x4.7mm, IPC High Density)
part A pins: 44 VBUS_DET, 58 USBUP_DM, 59 USBUP_DP
part B pins: 1 USBDN1_DM/PRT_DIS_M1, 2 USBDN1_DP/PRT_DIS_P1, 3 USBDN2_DM/PRT_DIS_M2, 4 USBDN2_DP/PRT_DIS_P2, 6 USBDN3_DM/PRT_DIS_M3, 7 USBDN3_DP/PRT_DIS_P3, 8 USBDN4_DM/PRT_DIS_M4, 9 USBDN4_DP/PRT_DIS_P4, 11 USBDN5_DM/PRT_DIS_M5, 12 USBDN5_DP/PRT_DIS_P5, 53 USBDN6_DM/PRT_DIS_M6, 54 USBDN6_DP/PRT_DIS_P6, 55 USBDN7_DM/PRT_DIS_M7, 56 USBDN7_DP/PRT_DIS_P7
part C pins: 20 PRTPWR4, 23 PRTPWR3, 26 PRTPWR2, 29 PRTPWR1, 30 PRTPWR5, 36 PRTPWR7, 39 PRTPWR6
part D pins: 14 LED_B7_N, 15 LED_A7_N/PRT_SWP7, 16 LED_B6_N, 17 LED_A6_N/PRT_SWP6, 18 LED_B5_N, 31 LED_A5_N/PRT_SWP5, 32 LED_B4_N, 33 LED_A4_N/PRT_SWP4, 34 LED_B3_N/GANG_EN, 47 LED_A3_N/PRT_SWP3, 48 LED_B2_N/BOOST1, 49 LED_A2_N/PRT_SWP2, 50 LED_B1_N/BOOST0, 51 LED_A1_N/PRT_SWP1
part E pins: 21 OCS4_N, 22 OCS3_N, 27 OCS2_N, 28 OCS1_N, 35 OCS5_N, 37 OCS7_N, 38 OCS6_N
part F pins: 13 CFG_SEL2, 40 SDA/SMBDATA/NON_REM1, 41 SCL/SMBCLK/CFG_SEL0, 42 HS_IND/CFG_SEL1
part G pins: 19 TEST, 43 RESET_N, 45 SUSP_IND/LOCAL_PWR/NON_REM0, 60 XTAL2, 61 XTAL1/CLKIN, 63 RBIAS
part H pins: 5 VDDA33, 10 VDDA33, 24 VDD33CR, 25 VDD18, 46 VDD33, 52 VDDA33, 57 VDDA33, 62 VDD18PLL, 64 VDD33PLL, 65 GND

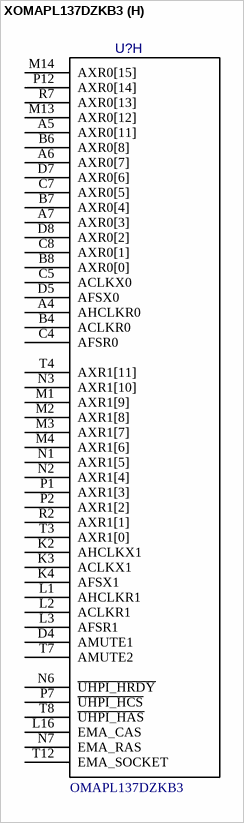
[diagram p8: symbol XOMAPL137DZKB3]

## XOMAPL137DZKB3
designator U?  (value not drawn)
Low-Power Applications Processor; Manufacturer: Texas Instruments Inc.; Manufacturer P/N: OMAPL137DZKB3; Value: *; ComponentLink1Description: Manufacturer; ComponentLink1URL: www.ti.com; ComponentLink2Description: Datasheet; ComponentLink2URL: https://www.ti.com/lit/ds/symlink/omap-l137.pdf; Family: Chip; Part: OMAPL137DZKB3
footprint FG256_XOMAPL137AZKB3(Primary)
pins on every part: F7 hidden
part A pins: A1 GND (power), A2 GND (power), A15 GND (power), A16 GND (power), B1 CVDD, B2 GND (power), B16 DVDD (power), E5 DVDD (power), E6 GND (power), E7 GND (power), E8 DVDD (power), E9 DVDD (power), E10 GND (power), E11 GND (power), E12 DVDD (power), F5 DVDD (power), F6 CVDD (power), F8 GND (power), F9 GND (power), F10 GND (power), F11 DVDD (power), F12 DVDD (power), G5 DVDD (power), G6 CVDD (power), G7 CVDD (power), G8 GND (power), G9 GND (power), G10 CVDD (power), G11 CVDD (power), G12 DVDD (power), H6 RVDD (power), H7 CVDD (power), H8 GND (power), H9 GND (power), H10 CVDD (power), H11 CVDD (power), H12 RVDD (power), J6 CVDD (power), J7 CVDD (power), J8 GND (power), J9 GND (power), J10 CVDD (power), J11 CVDD (power), J12 CVDD (power), K5 DVDD, K6 CVDD (power), K7 CVDD (power), K8 GND (power), K9 GND (power), K10 CVDD (power), K11 CVDD (power), K12 DVDD (power), L5 DVDD, L6 CVDD (power), L7 GND (power), L8 GND (power), L9 GND (power), L10 GND (power), L11 DVDD (power), L12 DVDD (power), M5 DVDD, M6 GND (power), M7 GND (power), M8 DVDD (power), M9 DVDD (power), M10 GND (power), M11 GND (power), M12 DVDD (power), R1 DVDD (power), R16 DVDD (power), T1 GND (power), T2 GND (power), T15 GND (power), T16 GND (power)
part B pins: A8 ~{EMB_RAS}, A9 EMB_A10, A10 EMB_A3, A11 EMB_A7, A12 ~{EMB_WE_DQM3}, A13 D24, A14 D26, B9 EMB_BA1, B10 EMB_A2, B11 EMB_A6, B12 EMB_A11, B13 ~{EMB_WE_DQM2}, B14 D25, B15 EMB_A12, C9 EMB_BA0, C10 EMB_A1, C11 EMB_A5, C12 EMB_A9, C13 EMB_SDCKE, C14 EMB_CLK, C15 ~{EMB_WE_DQM1}, C16 D8, D9 ~{EMB_CS}, D10 EMB_A0, D11 EMB_A4, D12 EMB_A8, D13 D9, D14 D10, D15 D11, D16 D12, E13 D13, E14 D27, E15 D28, E16 D14, F13 D15, F14 D29, F15 D30, F16 D0, G13 D1, G14 D31, G15 D16, G16 D2, H13 D3, H14 D17, H15 D18, H16 D4, J13 D5, J14 D19, J15 D6, J16 D7, K13 D20, K14 ~{EMB_WE_DQM0}, K15 ~{EMB_WE}, K16 D21, L13 ~{EMB_CAS}, L14 D22, L15 D23
part C pins: M16 LCD_D15, N8 LCD_VSYNC, N9 LCD_D6, N10 LCD_D0, N11 LCD_MCLK, N12 LCD_D8, N14 LCD_D14, N16 LCD_D13, P8 LCD_D5, P10 LCD_D1, P11 ~{LCD_AC_ENB_CS}, P14 LCD_D12, P16 LCD_D11, R8 LCD_D4, R10 LCD_D2, R11 LCD_HSYNC, R14 LCD_D10, T9 LCD_D7, T10 LCD_D3, T11 LCD_PCLK, T14 LCD_D9
part D pins: D1 PLL0_VDDA, E1 PLL0_VSSA, E2 OSCVSS, F1 OSCOUT, F2 OSCIN, G1 RTC_CVDD, G2 RTC_VSS, G3 ~{RESET}, H1 RTC_XI, H2 RTC_XO, H3 TCK, J1 TMS, J2 TDI, J3 TDO, J4 ~{TRST}, J5 EMU, K1 RTCK, L4 ~{RESTOUT}, R12 OBSCLK
part E pins: A3 USB1_DP, B3 USB1_DM, B5 USB0/1_REFCLKIN, C1 USB1_VDDA33, C2 USB1_VDDA18, C3 USB0_VDDA12, D2 USB0_ID, D3 USB0_VBUS, E3 USB0_VDDA18, E4 USB0_DRVVBUS, F3 USB0_VSSA, F4 USB0_DP, G4 USB0_DM, H4 USB0_VSSA33, H5 USB0_VDDA33
part F pins: C6 UART1_RXD, D6 UART1_TXD, N4 ~{SPI0_SCS}, N5 SPI1_SIMO, P3 UART0_TXD, P4 ~{SPI1_SCS}, P5 SPI1_SOMI, P6 SPI0_SIMO, R3 UART0_RXD, R4 ~{SPI1_ENA}, R5 ~{SPI0_ENA}, R6 SPI0_SOMI, T5 SPI0_CLK, T6 SPI1_CLK
part G pins: M15 MMCSD_DAT[7], N13 MMCSD_DAT[6], N15 MMCSD_DAT[5], P9 MMCSD_CMD, P13 MMCSD_DAT[4], P15 MMCSD_DAT[3], R9 MMCSD_CLK, R13 MMCSD_DAT[2], R15 MMCSD_DAT[1], T13 MMCSD_DAT[0]
part H pins: A4 AHCLKR0, A5 AXR0[11], A6 AXR0[7], A7 AXR0[3], B4 ACLKR0, B6 AXR0[8], B7 AXR0[4], B8 AXR0[0], C4 AFSR0, C5 ACLKX0, C7 AXR0[5], C8 AXR0[1], D4 AMUTE1, D5 AFSX0, D7 AXR0[6], D8 AXR0[2], K2 AHCLKX1, K3 ACLKX1, K4 AFSX1, L1 AHCLKR1, L2 ACLKR1, L3 AFSR1, L16 EMA_CAS, M1 AXR1[9], M2 AXR1[8], M3 AXR1[7], M4 AXR1[6], M13 AXR0[12], M14 AXR0[15], N1 AXR1[5], N2 AXR1[4], N3 AXR1[10], N6 ~{UHPI_HRDY}, N7 EMA_RAS, P1 AXR1[3], P2 AXR1[2], P7 ~{UHPI_HCS}, P12 AXR0[14], R2 AXR1[1], R7 AXR0[13], T3 AXR1[0], T4 AXR1[11], T7 AMUTE2, T8 ~{UHPI_HAS}, T12 EMA_SOCKET